# Altium schematic symbol library Xilinx.SchLib: 3 symbols
Pins are listed as number, name and electrical type; pins without a type are passive.

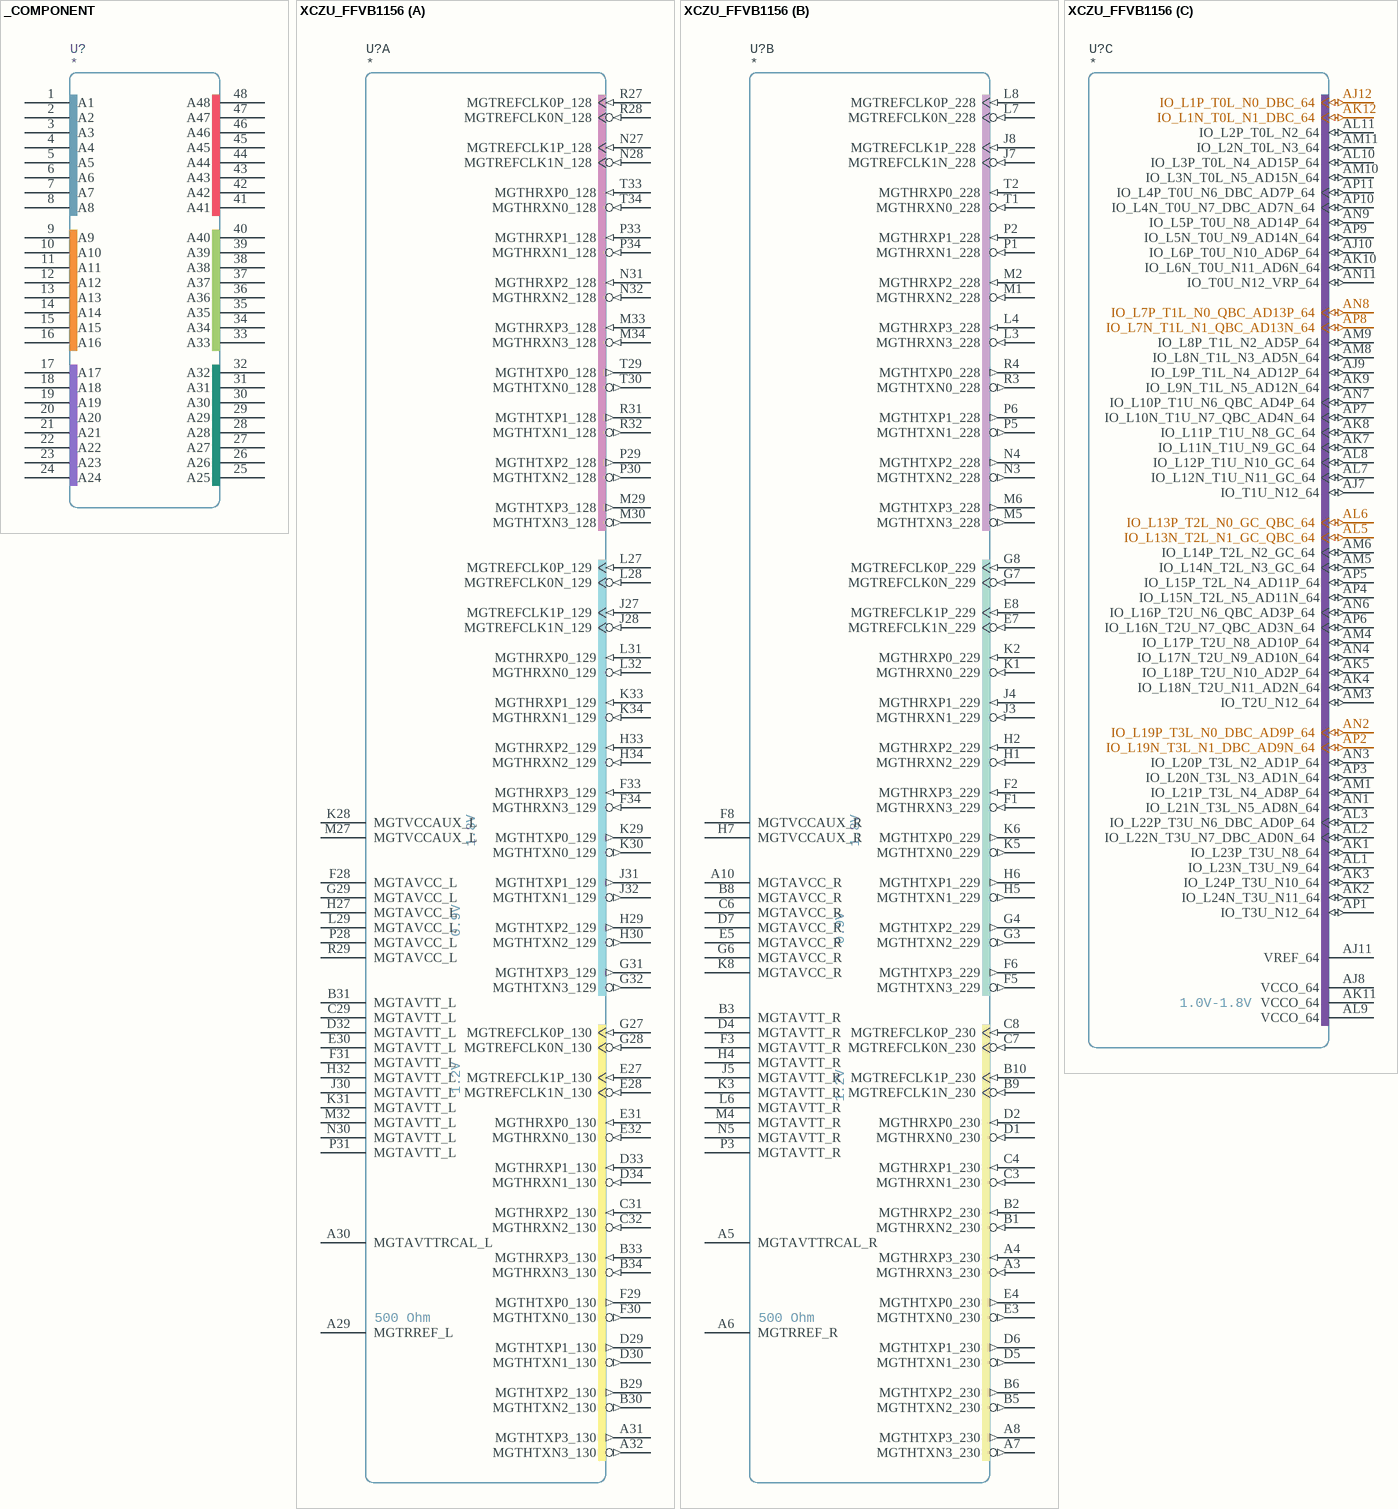
[diagram p0: symbols _COMPONENT to XCZU_FFVB1156]

## _COMPONENT
designator U?
pins: 1 A1, 2 A2, 3 A3, 4 A4, 5 A5, 6 A6, 7 A7, 8 A8, 9 A9, 10 A10, 11 A11, 12 A12, 13 A13, 14 A14, 15 A15, 16 A16, 17 A17, 18 A18, 19 A19, 20 A20, 21 A21, 22 A22, 23 A23, 24 A24, 25 A25, 26 A26, 27 A27, 28 A28, 29 A29, 30 A30, 31 A31, 32 A32, 33 A33, 34 A34, 35 A35, 36 A36, 37 A37, 38 A38, 39 A39, 40 A40, 41 A41, 42 A42, 43 A43, 44 A44, 45 A45, 46 A46, 47 A47, 48 A48

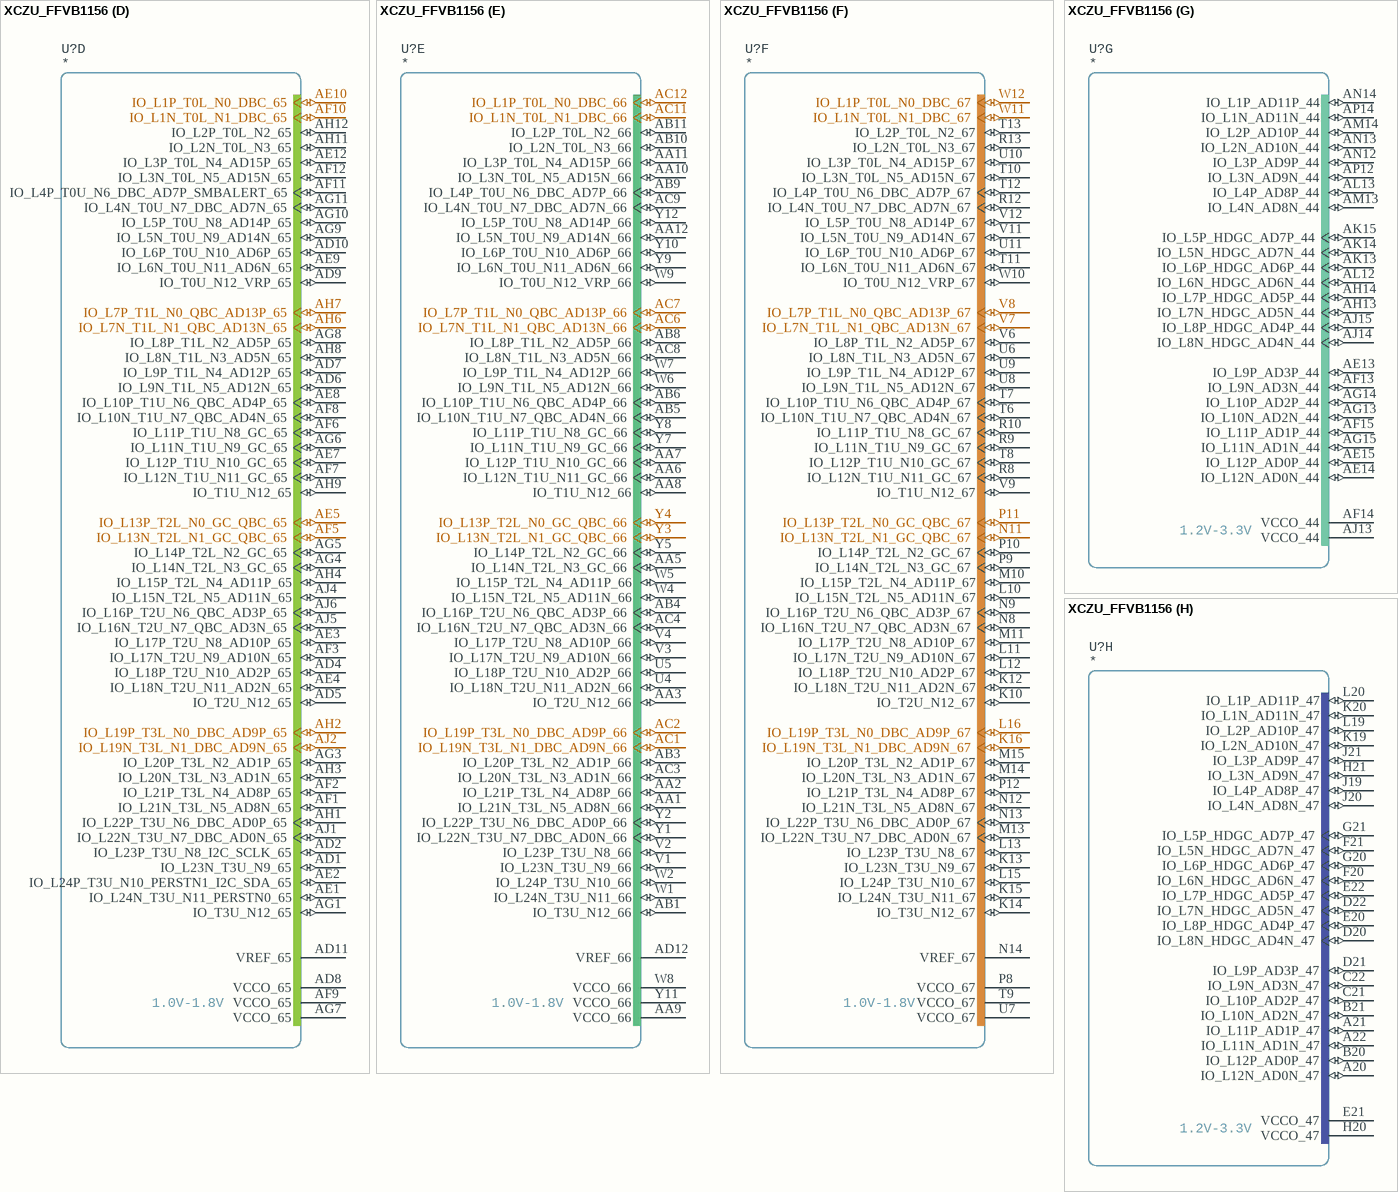
[diagram p1: symbol XCZU_FFVB1156]

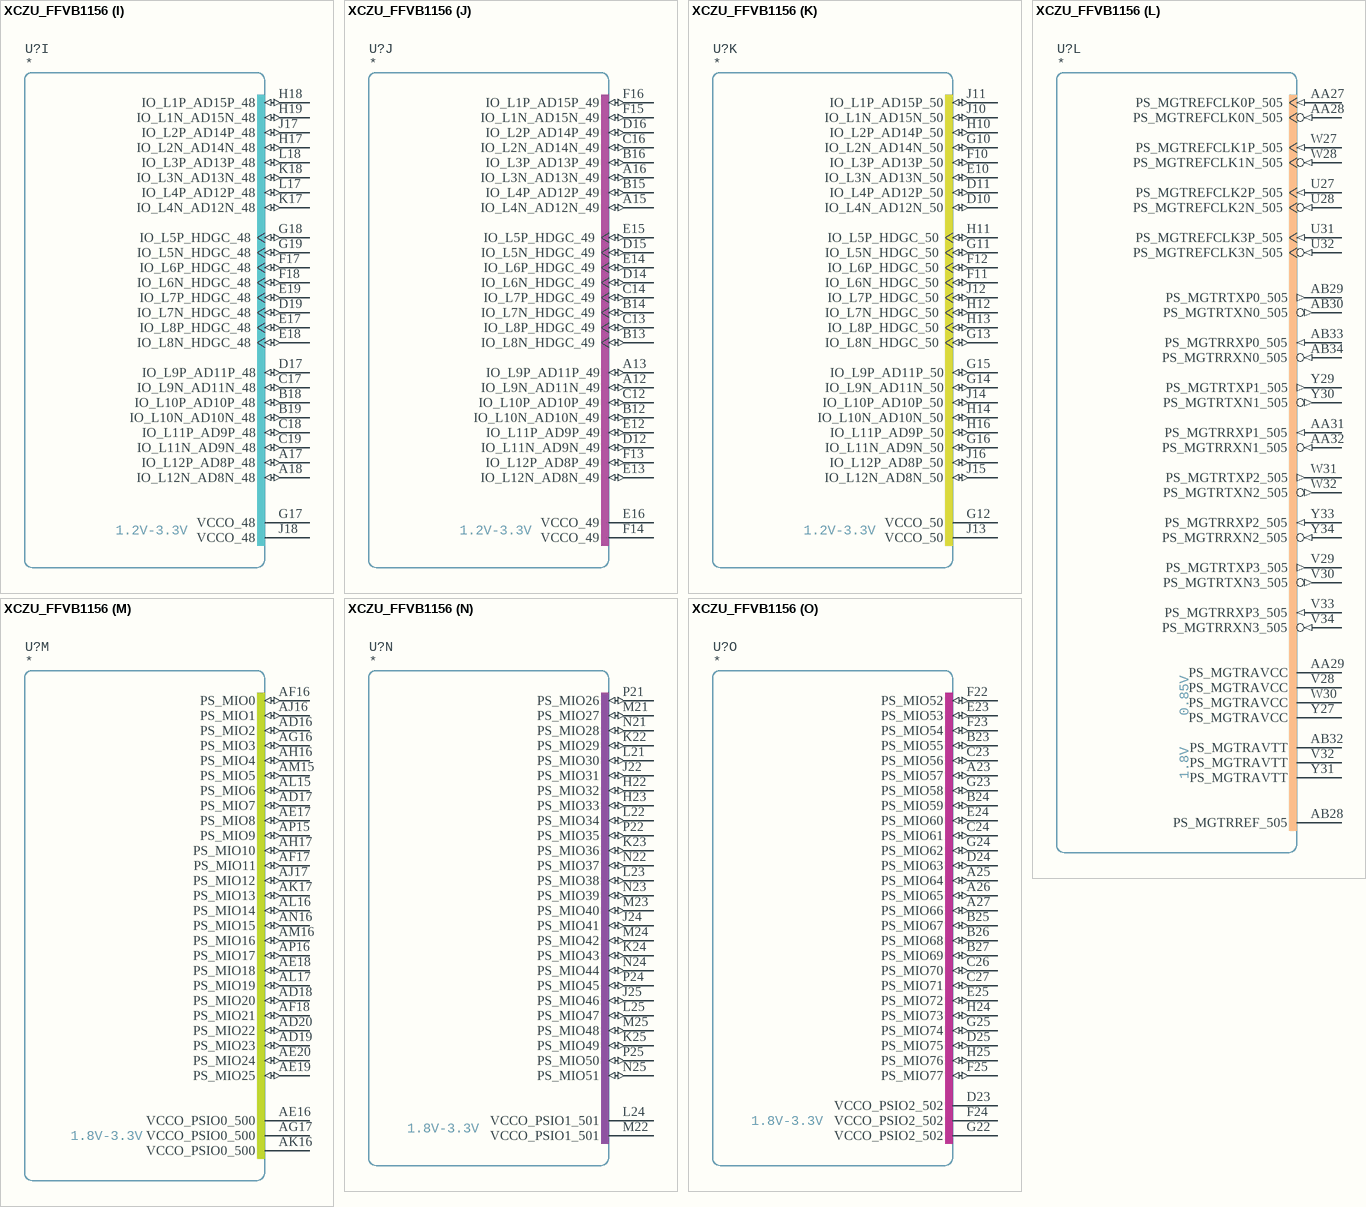
[diagram p2: symbol XCZU_FFVB1156]

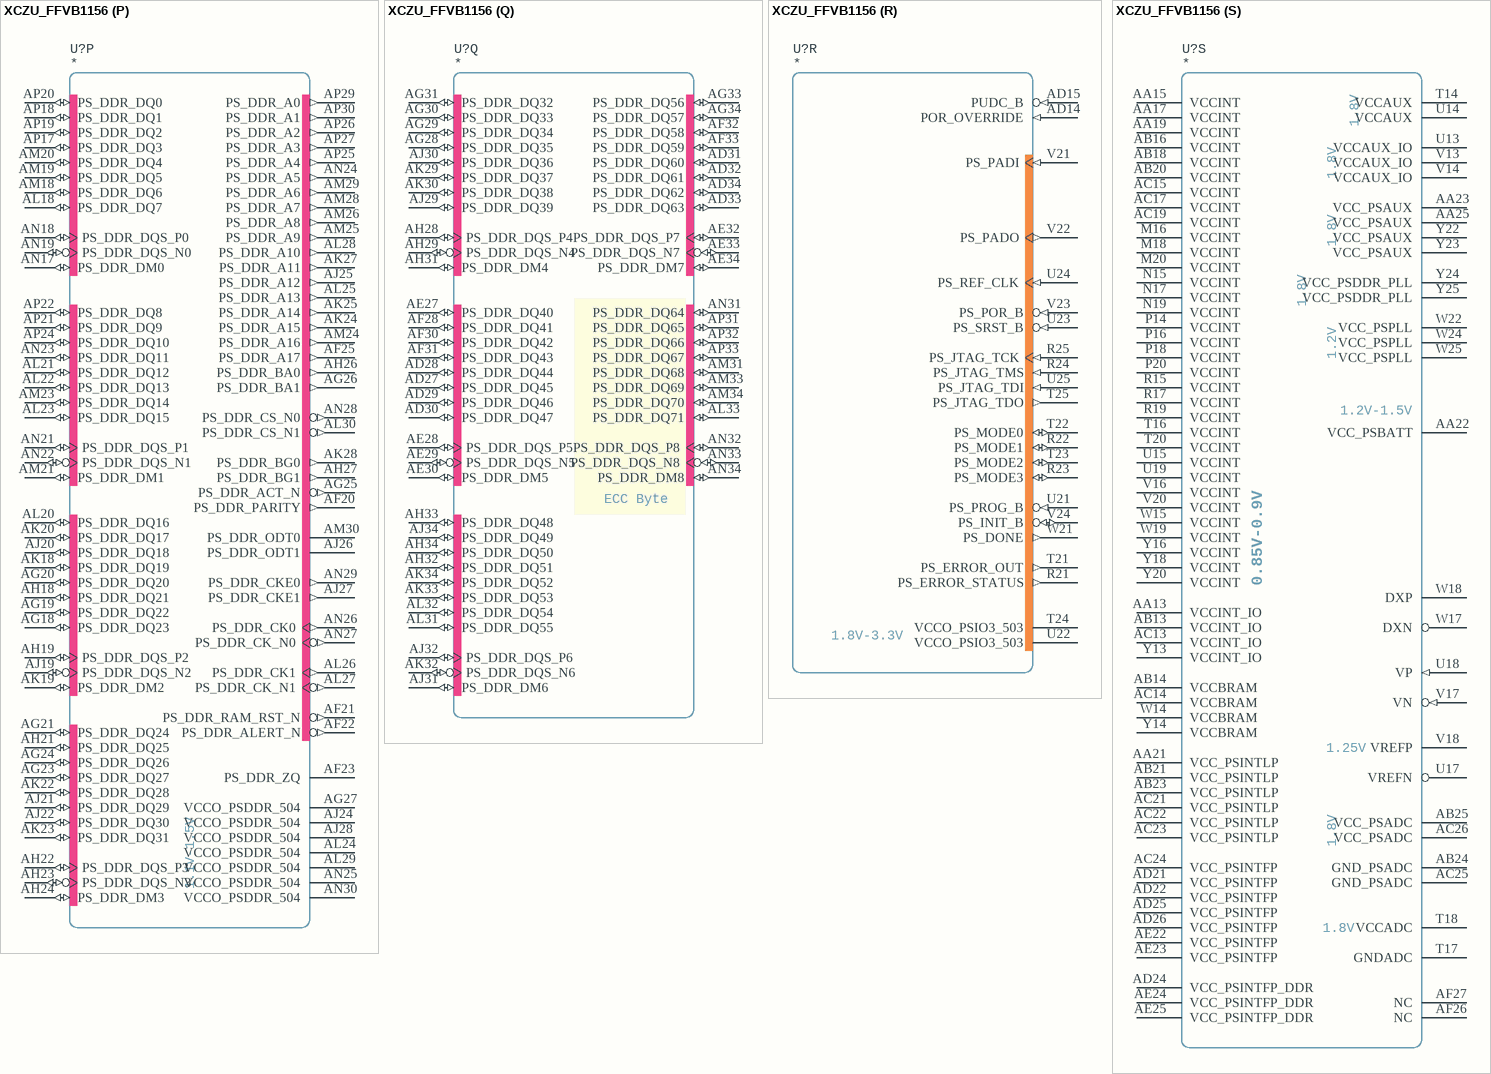
[diagram p3: symbol XCZU_FFVB1156]

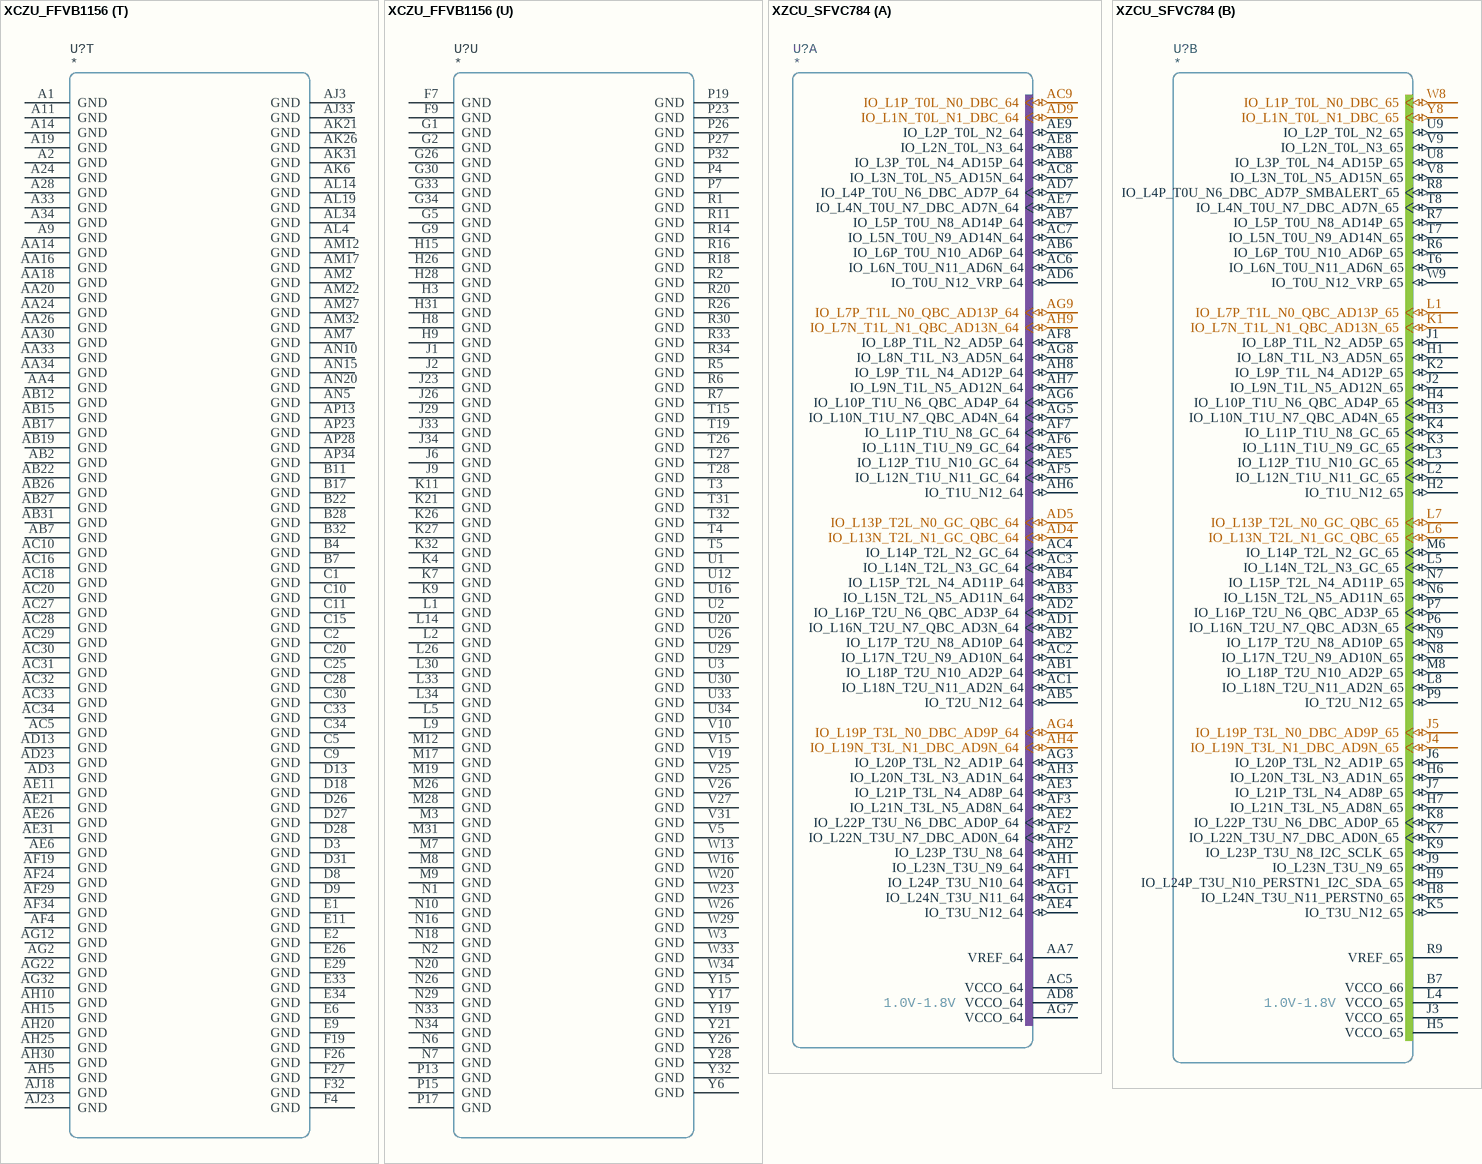
[diagram p4: symbols XCZU_FFVB1156 to XZCU_SFVC784]

## XCZU_FFVB1156
designator U?
part A pins: A29 MGTRREF_L, A30 MGTAVTTRCAL_L, A31 MGTHTXP3_130 (out), A32 MGTHTXN3_130 (out), B29 MGTHTXP2_130 (out), B30 MGTHTXN2_130 (out), B31 MGTAVTT_L, B33 MGTHRXP3_130 (in), B34 MGTHRXN3_130 (in), C29 MGTAVTT_L, C31 MGTHRXP2_130 (in), C32 MGTHRXN2_130 (in), D29 MGTHTXP1_130 (out), D30 MGTHTXN1_130 (out), D32 MGTAVTT_L, D33 MGTHRXP1_130 (in), D34 MGTHRXN1_130 (in), E27 MGTREFCLK1P_130 (in), E28 MGTREFCLK1N_130 (in), E30 MGTAVTT_L, E31 MGTHRXP0_130 (in), E32 MGTHRXN0_130 (in), F28 MGTAVCC_L, F29 MGTHTXP0_130 (out), F30 MGTHTXN0_130 (out), F31 MGTAVTT_L, F33 MGTHRXP3_129 (in), F34 MGTHRXN3_129 (in), G27 MGTREFCLK0P_130 (in), G28 MGTREFCLK0N_130 (in), G29 MGTAVCC_L, G31 MGTHTXP3_129 (out), G32 MGTHTXN3_129 (out), H27 MGTAVCC_L, H29 MGTHTXP2_129 (out), H30 MGTHTXN2_129 (out), H32 MGTAVTT_L, H33 MGTHRXP2_129 (in), H34 MGTHRXN2_129 (in), J27 MGTREFCLK1P_129 (in), J28 MGTREFCLK1N_129 (in), J30 MGTAVTT_L, J31 MGTHTXP1_129 (out), J32 MGTHTXN1_129 (out), K28 MGTVCCAUX_L, K29 MGTHTXP0_129 (out), K30 MGTHTXN0_129 (out), K31 MGTAVTT_L, K33 MGTHRXP1_129 (in), K34 MGTHRXN1_129 (in), L27 MGTREFCLK0P_129 (in), L28 MGTREFCLK0N_129 (in), L29 MGTAVCC_L, L31 MGTHRXP0_129 (in), L32 MGTHRXN0_129 (in), M27 MGTVCCAUX_L, M29 MGTHTXP3_128 (out), M30 MGTHTXN3_128 (out), M32 MGTAVTT_L, M33 MGTHRXP3_128 (in), M34 MGTHRXN3_128 (in), N27 MGTREFCLK1P_128 (in), N28 MGTREFCLK1N_128 (in), N30 MGTAVTT_L, N31 MGTHRXP2_128 (in), N32 MGTHRXN2_128 (in), P28 MGTAVCC_L, P29 MGTHTXP2_128 (out), P30 MGTHTXN2_128 (out), P31 MGTAVTT_L, P33 MGTHRXP1_128 (in), P34 MGTHRXN1_128 (in), R27 MGTREFCLK0P_128 (in), R28 MGTREFCLK0N_128 (in), R29 MGTAVCC_L, R31 MGTHTXP1_128 (out), R32 MGTHTXN1_128 (out), T29 MGTHTXP0_128 (out), T30 MGTHTXN0_128 (out), T33 MGTHRXP0_128 (in), T34 MGTHRXN0_128 (in)
part B pins: A3 MGTHRXN3_230 (in), A4 MGTHRXP3_230 (in), A5 MGTAVTTRCAL_R, A6 MGTRREF_R, A7 MGTHTXN3_230 (out), A8 MGTHTXP3_230 (out), A10 MGTAVCC_R, B1 MGTHRXN2_230 (in), B2 MGTHRXP2_230 (in), B3 MGTAVTT_R, B5 MGTHTXN2_230 (out), B6 MGTHTXP2_230 (out), B8 MGTAVCC_R, B9 MGTREFCLK1N_230 (in), B10 MGTREFCLK1P_230 (in), C3 MGTHRXN1_230 (in), C4 MGTHRXP1_230 (in), C6 MGTAVCC_R, C7 MGTREFCLK0N_230 (in), C8 MGTREFCLK0P_230 (in), D1 MGTHRXN0_230 (in), D2 MGTHRXP0_230 (in), D4 MGTAVTT_R, D5 MGTHTXN1_230 (out), D6 MGTHTXP1_230 (out), D7 MGTAVCC_R, E3 MGTHTXN0_230 (out), E4 MGTHTXP0_230 (out), E5 MGTAVCC_R, E7 MGTREFCLK1N_229 (in), E8 MGTREFCLK1P_229 (in), F1 MGTHRXN3_229 (in), F2 MGTHRXP3_229 (in), F3 MGTAVTT_R, F5 MGTHTXN3_229 (out), F6 MGTHTXP3_229 (out), F8 MGTVCCAUX_R, G3 MGTHTXN2_229 (out), G4 MGTHTXP2_229 (out), G6 MGTAVCC_R, G7 MGTREFCLK0N_229 (in), G8 MGTREFCLK0P_229 (in), H1 MGTHRXN2_229 (in), H2 MGTHRXP2_229 (in), H4 MGTAVTT_R, H5 MGTHTXN1_229 (out), H6 MGTHTXP1_229 (out), H7 MGTVCCAUX_R, J3 MGTHRXN1_229 (in), J4 MGTHRXP1_229 (in), J5 MGTAVTT_R, J7 MGTREFCLK1N_228 (in), J8 MGTREFCLK1P_228 (in), K1 MGTHRXN0_229 (in), K2 MGTHRXP0_229 (in), K3 MGTAVTT_R, K5 MGTHTXN0_229 (out), K6 MGTHTXP0_229 (out), K8 MGTAVCC_R, L3 MGTHRXN3_228 (in), L4 MGTHRXP3_228 (in), L6 MGTAVTT_R, L7 MGTREFCLK0N_228 (in), L8 MGTREFCLK0P_228 (in), M1 MGTHRXN2_228 (in), M2 MGTHRXP2_228 (in), M4 MGTAVTT_R, M5 MGTHTXN3_228 (out), M6 MGTHTXP3_228 (out), N3 MGTHTXN2_228 (out), N4 MGTHTXP2_228 (out), N5 MGTAVTT_R, P1 MGTHRXN1_228 (in), P2 MGTHRXP1_228 (in), P3 MGTAVTT_R, P5 MGTHTXN1_228 (out), P6 MGTHTXP1_228 (out), R3 MGTHTXN0_228 (out), R4 MGTHTXP0_228 (out), T1 MGTHRXN0_228 (in), T2 MGTHRXP0_228 (in)
part C pins: AJ7 IO_T1U_N12_64 (io), AJ8 VCCO_64, AJ9 IO_L9P_T1L_N4_AD12P_64 (io), AJ10 IO_L6P_T0U_N10_AD6P_64 (io), AJ11 VREF_64, AJ12 IO_L1P_T0L_N0_DBC_64 (io), AK1 IO_L23P_T3U_N8_64 (io), AK2 IO_L24N_T3U_N11_64 (io), AK3 IO_L24P_T3U_N10_64 (io), AK4 IO_L18N_T2U_N11_AD2N_64 (io), AK5 IO_L18P_T2U_N10_AD2P_64 (io), AK7 IO_L11N_T1U_N9_GC_64 (io), AK8 IO_L11P_T1U_N8_GC_64 (io), AK9 IO_L9N_T1L_N5_AD12N_64 (io), AK10 IO_L6N_T0U_N11_AD6N_64 (io), AK11 VCCO_64, AK12 IO_L1N_T0L_N1_DBC_64 (io), AL1 IO_L23N_T3U_N9_64 (io), AL2 IO_L22N_T3U_N7_DBC_AD0N_64 (io), AL3 IO_L22P_T3U_N6_DBC_AD0P_64 (io), AL5 IO_L13N_T2L_N1_GC_QBC_64 (io), AL6 IO_L13P_T2L_N0_GC_QBC_64 (io), AL7 IO_L12N_T1U_N11_GC_64 (io), AL8 IO_L12P_T1U_N10_GC_64 (io), AL9 VCCO_64, AL10 IO_L3P_T0L_N4_AD15P_64 (io), AL11 IO_L2P_T0L_N2_64 (io), AM1 IO_L21P_T3L_N4_AD8P_64 (io), AM3 IO_T2U_N12_64 (io), AM4 IO_L17P_T2U_N8_AD10P_64 (io), AM5 IO_L14N_T2L_N3_GC_64 (io), AM6 IO_L14P_T2L_N2_GC_64 (io), AM8 IO_L8N_T1L_N3_AD5N_64 (io), AM9 IO_L8P_T1L_N2_AD5P_64 (io), AM10 IO_L3N_T0L_N5_AD15N_64 (io), AM11 IO_L2N_T0L_N3_64 (io), AN1 IO_L21N_T3L_N5_AD8N_64 (io), AN2 IO_L19P_T3L_N0_DBC_AD9P_64 (io), AN3 IO_L20P_T3L_N2_AD1P_64 (io), AN4 IO_L17N_T2U_N9_AD10N_64 (io), AN6 IO_L16P_T2U_N6_QBC_AD3P_64 (io), AN7 IO_L10P_T1U_N6_QBC_AD4P_64 (io), AN8 IO_L7P_T1L_N0_QBC_AD13P_64 (io), AN9 IO_L5P_T0U_N8_AD14P_64 (io), AN11 IO_T0U_N12_VRP_64 (io), AP1 IO_T3U_N12_64 (io), AP2 IO_L19N_T3L_N1_DBC_AD9N_64 (io), AP3 IO_L20N_T3L_N3_AD1N_64 (io), AP4 IO_L15N_T2L_N5_AD11N_64 (io), AP5 IO_L15P_T2L_N4_AD11P_64 (io), AP6 IO_L16N_T2U_N7_QBC_AD3N_64 (io), AP7 IO_L10N_T1U_N7_QBC_AD4N_64 (io), AP8 IO_L7N_T1L_N1_QBC_AD13N_64 (io), AP9 IO_L5N_T0U_N9_AD14N_64 (io), AP10 IO_L4N_T0U_N7_DBC_AD7N_64 (io), AP11 IO_L4P_T0U_N6_DBC_AD7P_64 (io)
part D pins: AD1 IO_L23N_T3U_N9_65 (io), AD2 IO_L23P_T3U_N8_I2C_SCLK_65 (io), AD4 IO_L18P_T2U_N10_AD2P_65 (io), AD5 IO_T2U_N12_65 (io), AD6 IO_L9N_T1L_N5_AD12N_65 (io), AD7 IO_L9P_T1L_N4_AD12P_65 (io), AD8 VCCO_65, AD9 IO_T0U_N12_VRP_65 (io), AD10 IO_L6P_T0U_N10_AD6P_65 (io), AD11 VREF_65, AE1 IO_L24N_T3U_N11_PERSTN0_65 (io), AE2 IO_L24P_T3U_N10_PERSTN1_I2C_SDA_65 (io), AE3 IO_L17P_T2U_N8_AD10P_65 (io), AE4 IO_L18N_T2U_N11_AD2N_65 (io), AE5 IO_L13P_T2L_N0_GC_QBC_65 (io), AE7 IO_L12P_T1U_N10_GC_65 (io), AE8 IO_L10P_T1U_N6_QBC_AD4P_65 (io), AE9 IO_L6N_T0U_N11_AD6N_65 (io), AE10 IO_L1P_T0L_N0_DBC_65 (io), AE12 IO_L3P_T0L_N4_AD15P_65 (io), AF1 IO_L21N_T3L_N5_AD8N_65 (io), AF2 IO_L21P_T3L_N4_AD8P_65 (io), AF3 IO_L17N_T2U_N9_AD10N_65 (io), AF5 IO_L13N_T2L_N1_GC_QBC_65 (io), AF6 IO_L11P_T1U_N8_GC_65 (io), AF7 IO_L12N_T1U_N11_GC_65 (io), AF8 IO_L10N_T1U_N7_QBC_AD4N_65 (io), AF9 VCCO_65, AF10 IO_L1N_T0L_N1_DBC_65 (io), AF11 IO_L4P_T0U_N6_DBC_AD7P_SMBALERT_65 (io), AF12 IO_L3N_T0L_N5_AD15N_65 (io), AG1 IO_T3U_N12_65 (io), AG3 IO_L20P_T3L_N2_AD1P_65 (io), AG4 IO_L14N_T2L_N3_GC_65 (io), AG5 IO_L14P_T2L_N2_GC_65 (io), AG6 IO_L11N_T1U_N9_GC_65 (io), AG7 VCCO_65, AG8 IO_L8P_T1L_N2_AD5P_65 (io), AG9 IO_L5N_T0U_N9_AD14N_65 (io), AG10 IO_L5P_T0U_N8_AD14P_65 (io), AG11 IO_L4N_T0U_N7_DBC_AD7N_65 (io), AH1 IO_L22P_T3U_N6_DBC_AD0P_65 (io), AH2 IO_L19P_T3L_N0_DBC_AD9P_65 (io), AH3 IO_L20N_T3L_N3_AD1N_65 (io), AH4 IO_L15P_T2L_N4_AD11P_65 (io), AH6 IO_L7N_T1L_N1_QBC_AD13N_65 (io), AH7 IO_L7P_T1L_N0_QBC_AD13P_65 (io), AH8 IO_L8N_T1L_N3_AD5N_65 (io), AH9 IO_T1U_N12_65 (io), AH11 IO_L2N_T0L_N3_65 (io), AH12 IO_L2P_T0L_N2_65 (io), AJ1 IO_L22N_T3U_N7_DBC_AD0N_65 (io), AJ2 IO_L19N_T3L_N1_DBC_AD9N_65 (io), AJ4 IO_L15N_T2L_N5_AD11N_65 (io), AJ5 IO_L16N_T2U_N7_QBC_AD3N_65 (io), AJ6 IO_L16P_T2U_N6_QBC_AD3P_65 (io)
part E pins: AA1 IO_L21N_T3L_N5_AD8N_66 (io), AA2 IO_L21P_T3L_N4_AD8P_66 (io), AA3 IO_T2U_N12_66 (io), AA5 IO_L14N_T2L_N3_GC_66 (io), AA6 IO_L12N_T1U_N11_GC_66 (io), AA7 IO_L12P_T1U_N10_GC_66 (io), AA8 IO_T1U_N12_66 (io), AA9 VCCO_66, AA10 IO_L3N_T0L_N5_AD15N_66 (io), AA11 IO_L3P_T0L_N4_AD15P_66 (io), AA12 IO_L5N_T0U_N9_AD14N_66 (io), AB1 IO_T3U_N12_66 (io), AB3 IO_L20P_T3L_N2_AD1P_66 (io), AB4 IO_L16P_T2U_N6_QBC_AD3P_66 (io), AB5 IO_L10N_T1U_N7_QBC_AD4N_66 (io), AB6 IO_L10P_T1U_N6_QBC_AD4P_66 (io), AB8 IO_L8P_T1L_N2_AD5P_66 (io), AB9 IO_L4P_T0U_N6_DBC_AD7P_66 (io), AB10 IO_L2N_T0L_N3_66 (io), AB11 IO_L2P_T0L_N2_66 (io), AC1 IO_L19N_T3L_N1_DBC_AD9N_66 (io), AC2 IO_L19P_T3L_N0_DBC_AD9P_66 (io), AC3 IO_L20N_T3L_N3_AD1N_66 (io), AC4 IO_L16N_T2U_N7_QBC_AD3N_66 (io), AC6 IO_L7N_T1L_N1_QBC_AD13N_66 (io), AC7 IO_L7P_T1L_N0_QBC_AD13P_66 (io), AC8 IO_L8N_T1L_N3_AD5N_66 (io), AC9 IO_L4N_T0U_N7_DBC_AD7N_66 (io), AC11 IO_L1N_T0L_N1_DBC_66 (io), AC12 IO_L1P_T0L_N0_DBC_66 (io), AD12 VREF_66, U4 IO_L18N_T2U_N11_AD2N_66 (io), U5 IO_L18P_T2U_N10_AD2P_66 (io), V1 IO_L23N_T3U_N9_66 (io), V2 IO_L23P_T3U_N8_66 (io), V3 IO_L17N_T2U_N9_AD10N_66 (io), V4 IO_L17P_T2U_N8_AD10P_66 (io), W1 IO_L24N_T3U_N11_66 (io), W2 IO_L24P_T3U_N10_66 (io), W4 IO_L15N_T2L_N5_AD11N_66 (io), W5 IO_L15P_T2L_N4_AD11P_66 (io), W6 IO_L9N_T1L_N5_AD12N_66 (io), W7 IO_L9P_T1L_N4_AD12P_66 (io), W8 VCCO_66, W9 IO_T0U_N12_VRP_66 (io), Y1 IO_L22N_T3U_N7_DBC_AD0N_66 (io), Y2 IO_L22P_T3U_N6_DBC_AD0P_66 (io), Y3 IO_L13N_T2L_N1_GC_QBC_66 (io), Y4 IO_L13P_T2L_N0_GC_QBC_66 (io), Y5 IO_L14P_T2L_N2_GC_66 (io), Y7 IO_L11N_T1U_N9_GC_66 (io), Y8 IO_L11P_T1U_N8_GC_66 (io), Y9 IO_L6N_T0U_N11_AD6N_66 (io), Y10 IO_L6P_T0U_N10_AD6P_66 (io), Y11 VCCO_66, Y12 IO_L5P_T0U_N8_AD14P_66 (io)
part F pins: K10 IO_T2U_N12_67 (io), K12 IO_L18N_T2U_N11_AD2N_67 (io), K13 IO_L23N_T3U_N9_67 (io), K14 IO_T3U_N12_67 (io), K15 IO_L24N_T3U_N11_67 (io), K16 IO_L19N_T3L_N1_DBC_AD9N_67 (io), L10 IO_L15N_T2L_N5_AD11N_67 (io), L11 IO_L17N_T2U_N9_AD10N_67 (io), L12 IO_L18P_T2U_N10_AD2P_67 (io), L13 IO_L23P_T3U_N8_67 (io), L15 IO_L24P_T3U_N10_67 (io), L16 IO_L19P_T3L_N0_DBC_AD9P_67 (io), M10 IO_L15P_T2L_N4_AD11P_67 (io), M11 IO_L17P_T2U_N8_AD10P_67 (io), M13 IO_L22N_T3U_N7_DBC_AD0N_67 (io), M14 IO_L20N_T3L_N3_AD1N_67 (io), M15 IO_L20P_T3L_N2_AD1P_67 (io), N8 IO_L16N_T2U_N7_QBC_AD3N_67 (io), N9 IO_L16P_T2U_N6_QBC_AD3P_67 (io), N11 IO_L13N_T2L_N1_GC_QBC_67 (io), N12 IO_L21N_T3L_N5_AD8N_67 (io), N13 IO_L22P_T3U_N6_DBC_AD0P_67 (io), N14 VREF_67, P8 VCCO_67, P9 IO_L14N_T2L_N3_GC_67 (io), P10 IO_L14P_T2L_N2_GC_67 (io), P11 IO_L13P_T2L_N0_GC_QBC_67 (io), P12 IO_L21P_T3L_N4_AD8P_67 (io), R8 IO_L12N_T1U_N11_GC_67 (io), R9 IO_L11N_T1U_N9_GC_67 (io), R10 IO_L11P_T1U_N8_GC_67 (io), R12 IO_L4N_T0U_N7_DBC_AD7N_67 (io), R13 IO_L2N_T0L_N3_67 (io), T6 IO_L10N_T1U_N7_QBC_AD4N_67 (io), T7 IO_L10P_T1U_N6_QBC_AD4P_67 (io), T8 IO_L12P_T1U_N10_GC_67 (io), T9 VCCO_67, T10 IO_L3N_T0L_N5_AD15N_67 (io), T11 IO_L6N_T0U_N11_AD6N_67 (io), T12 IO_L4P_T0U_N6_DBC_AD7P_67 (io), T13 IO_L2P_T0L_N2_67 (io), U6 IO_L8N_T1L_N3_AD5N_67 (io), U7 VCCO_67, U8 IO_L9N_T1L_N5_AD12N_67 (io), U9 IO_L9P_T1L_N4_AD12P_67 (io), U10 IO_L3P_T0L_N4_AD15P_67 (io), U11 IO_L6P_T0U_N10_AD6P_67 (io), V6 IO_L8P_T1L_N2_AD5P_67 (io), V7 IO_L7N_T1L_N1_QBC_AD13N_67 (io), V8 IO_L7P_T1L_N0_QBC_AD13P_67 (io), V9 IO_T1U_N12_67 (io), V11 IO_L5N_T0U_N9_AD14N_67 (io), V12 IO_L5P_T0U_N8_AD14P_67 (io), W10 IO_T0U_N12_VRP_67 (io), W11 IO_L1N_T0L_N1_DBC_67 (io), W12 IO_L1P_T0L_N0_DBC_67 (io)
part G pins: AE13 IO_L9P_AD3P_44 (io), AE14 IO_L12N_AD0N_44 (io), AE15 IO_L12P_AD0P_44 (io), AF13 IO_L9N_AD3N_44 (io), AF14 VCCO_44, AF15 IO_L11P_AD1P_44 (io), AG13 IO_L10N_AD2N_44 (io), AG14 IO_L10P_AD2P_44 (io), AG15 IO_L11N_AD1N_44 (io), AH13 IO_L7N_HDGC_AD5N_44 (io), AH14 IO_L7P_HDGC_AD5P_44 (io), AJ13 VCCO_44, AJ14 IO_L8N_HDGC_AD4N_44 (io), AJ15 IO_L8P_HDGC_AD4P_44 (io), AK13 IO_L6P_HDGC_AD6P_44 (io), AK14 IO_L5N_HDGC_AD7N_44 (io), AK15 IO_L5P_HDGC_AD7P_44 (io), AL12 IO_L6N_HDGC_AD6N_44 (io), AL13 IO_L4P_AD8P_44 (io), AM13 IO_L4N_AD8N_44 (io), AM14 IO_L2P_AD10P_44 (io), AN12 IO_L3P_AD9P_44 (io), AN13 IO_L2N_AD10N_44 (io), AN14 IO_L1P_AD11P_44 (io), AP12 IO_L3N_AD9N_44 (io), AP14 IO_L1N_AD11N_44 (io)
part H pins: A20 IO_L12N_AD0N_47 (io), A21 IO_L11P_AD1P_47 (io), A22 IO_L11N_AD1N_47 (io), B20 IO_L12P_AD0P_47 (io), B21 IO_L10N_AD2N_47 (io), C21 IO_L10P_AD2P_47 (io), C22 IO_L9N_AD3N_47 (io), D20 IO_L8N_HDGC_AD4N_47 (io), D21 IO_L9P_AD3P_47 (io), D22 IO_L7N_HDGC_AD5N_47 (io), E20 IO_L8P_HDGC_AD4P_47 (io), E21 VCCO_47, E22 IO_L7P_HDGC_AD5P_47 (io), F20 IO_L6N_HDGC_AD6N_47 (io), F21 IO_L5N_HDGC_AD7N_47 (io), G20 IO_L6P_HDGC_AD6P_47 (io), G21 IO_L5P_HDGC_AD7P_47 (io), H20 VCCO_47, H21 IO_L3N_AD9N_47 (io), J19 IO_L4P_AD8P_47 (io), J20 IO_L4N_AD8N_47 (io), J21 IO_L3P_AD9P_47 (io), K19 IO_L2N_AD10N_47 (io), K20 IO_L1N_AD11N_47 (io), L19 IO_L2P_AD10P_47 (io), L20 IO_L1P_AD11P_47 (io)
part I pins: A17 IO_L12P_AD8P_48 (io), A18 IO_L12N_AD8N_48 (io), B18 IO_L10P_AD10P_48 (io), B19 IO_L10N_AD10N_48 (io), C17 IO_L9N_AD11N_48 (io), C18 IO_L11P_AD9P_48 (io), C19 IO_L11N_AD9N_48 (io), D17 IO_L9P_AD11P_48 (io), D19 IO_L7N_HDGC_48 (io), E17 IO_L8P_HDGC_48 (io), E18 IO_L8N_HDGC_48 (io), E19 IO_L7P_HDGC_48 (io), F17 IO_L6P_HDGC_48 (io), F18 IO_L6N_HDGC_48 (io), G17 VCCO_48, G18 IO_L5P_HDGC_48 (io), G19 IO_L5N_HDGC_48 (io), H17 IO_L2N_AD14N_48 (io), H18 IO_L1P_AD15P_48 (io), H19 IO_L1N_AD15N_48 (io), J17 IO_L2P_AD14P_48 (io), J18 VCCO_48, K17 IO_L4N_AD12N_48 (io), K18 IO_L3N_AD13N_48 (io), L17 IO_L4P_AD12P_48 (io), L18 IO_L3P_AD13P_48 (io)
part J pins: A12 IO_L9N_AD11N_49 (io), A13 IO_L9P_AD11P_49 (io), A15 IO_L4N_AD12N_49 (io), A16 IO_L3N_AD13N_49 (io), B12 IO_L10N_AD10N_49 (io), B13 IO_L8N_HDGC_49 (io), B14 IO_L7N_HDGC_49 (io), B15 IO_L4P_AD12P_49 (io), B16 IO_L3P_AD13P_49 (io), C12 IO_L10P_AD10P_49 (io), C13 IO_L8P_HDGC_49 (io), C14 IO_L7P_HDGC_49 (io), C16 IO_L2N_AD14N_49 (io), D12 IO_L11N_AD9N_49 (io), D14 IO_L6N_HDGC_49 (io), D15 IO_L5N_HDGC_49 (io), D16 IO_L2P_AD14P_49 (io), E12 IO_L11P_AD9P_49 (io), E13 IO_L12N_AD8N_49 (io), E14 IO_L6P_HDGC_49 (io), E15 IO_L5P_HDGC_49 (io), E16 VCCO_49, F13 IO_L12P_AD8P_49 (io), F14 VCCO_49, F15 IO_L1N_AD15N_49 (io), F16 IO_L1P_AD15P_49 (io)
part K pins: D10 IO_L4N_AD12N_50 (io), D11 IO_L4P_AD12P_50 (io), E10 IO_L3N_AD13N_50 (io), F10 IO_L3P_AD13P_50 (io), F11 IO_L6N_HDGC_50 (io), F12 IO_L6P_HDGC_50 (io), G10 IO_L2N_AD14N_50 (io), G11 IO_L5N_HDGC_50 (io), G12 VCCO_50, G13 IO_L8N_HDGC_50 (io), G14 IO_L9N_AD11N_50 (io), G15 IO_L9P_AD11P_50 (io), G16 IO_L11N_AD9N_50 (io), H10 IO_L2P_AD14P_50 (io), H11 IO_L5P_HDGC_50 (io), H12 IO_L7N_HDGC_50 (io), H13 IO_L8P_HDGC_50 (io), H14 IO_L10N_AD10N_50 (io), H16 IO_L11P_AD9P_50 (io), J10 IO_L1N_AD15N_50 (io), J11 IO_L1P_AD15P_50 (io), J12 IO_L7P_HDGC_50 (io), J13 VCCO_50, J14 IO_L10P_AD10P_50 (io), J15 IO_L12N_AD8N_50 (io), J16 IO_L12P_AD8P_50 (io)
part L pins: AA27 PS_MGTREFCLK0P_505 (in), AA28 PS_MGTREFCLK0N_505 (in), AA29 PS_MGTRAVCC, AA31 PS_MGTRRXP1_505 (in), AA32 PS_MGTRRXN1_505 (in), AB28 PS_MGTRREF_505, AB29 PS_MGTRTXP0_505 (out), AB30 PS_MGTRTXN0_505 (out), AB32 PS_MGTRAVTT, AB33 PS_MGTRRXP0_505 (in), AB34 PS_MGTRRXN0_505 (in), U27 PS_MGTREFCLK2P_505 (in), U28 PS_MGTREFCLK2N_505 (in), U31 PS_MGTREFCLK3P_505 (in), U32 PS_MGTREFCLK3N_505 (in), V28 PS_MGTRAVCC, V29 PS_MGTRTXP3_505 (out), V30 PS_MGTRTXN3_505 (out), V32 PS_MGTRAVTT, V33 PS_MGTRRXP3_505 (in), V34 PS_MGTRRXN3_505 (in), W27 PS_MGTREFCLK1P_505 (in), W28 PS_MGTREFCLK1N_505 (in), W30 PS_MGTRAVCC, W31 PS_MGTRTXP2_505 (out), W32 PS_MGTRTXN2_505 (out), Y27 PS_MGTRAVCC, Y29 PS_MGTRTXP1_505 (out), Y30 PS_MGTRTXN1_505 (out), Y31 PS_MGTRAVTT, Y33 PS_MGTRRXP2_505 (in), Y34 PS_MGTRRXN2_505 (in)
part M pins: AD16 PS_MIO2 (io), AD17 PS_MIO7 (io), AD18 PS_MIO20 (io), AD19 PS_MIO23 (io), AD20 PS_MIO22 (io), AE16 VCCO_PSIO0_500, AE17 PS_MIO8 (io), AE18 PS_MIO18 (io), AE19 PS_MIO25 (io), AE20 PS_MIO24 (io), AF16 PS_MIO0 (io), AF17 PS_MIO11 (io), AF18 PS_MIO21 (io), AG16 PS_MIO3 (io), AG17 VCCO_PSIO0_500, AH16 PS_MIO4 (io), AH17 PS_MIO10 (io), AJ16 PS_MIO1 (io), AJ17 PS_MIO12 (io), AK16 VCCO_PSIO0_500, AK17 PS_MIO13 (io), AL15 PS_MIO6 (io), AL16 PS_MIO14 (io), AL17 PS_MIO19 (io), AM15 PS_MIO5 (io), AM16 PS_MIO16 (io), AN16 PS_MIO15 (io), AP15 PS_MIO9 (io), AP16 PS_MIO17 (io)
part N pins: H22 PS_MIO32 (io), H23 PS_MIO33 (io), J22 PS_MIO31 (io), J24 PS_MIO41 (io), J25 PS_MIO46 (io), K22 PS_MIO29 (io), K23 PS_MIO36 (io), K24 PS_MIO43 (io), K25 PS_MIO49 (io), L21 PS_MIO30 (io), L22 PS_MIO34 (io), L23 PS_MIO38 (io), L24 VCCO_PSIO1_501, L25 PS_MIO47 (io), M21 PS_MIO27 (io), M22 VCCO_PSIO1_501, M23 PS_MIO40 (io), M24 PS_MIO42 (io), M25 PS_MIO48 (io), N21 PS_MIO28 (io), N22 PS_MIO37 (io), N23 PS_MIO39 (io), N24 PS_MIO44 (io), N25 PS_MIO51 (io), P21 PS_MIO26 (io), P22 PS_MIO35 (io), P24 PS_MIO45 (io), P25 PS_MIO50 (io)
part O pins: A23 PS_MIO57 (io), A25 PS_MIO64 (io), A26 PS_MIO65 (io), A27 PS_MIO66 (io), B23 PS_MIO55 (io), B24 PS_MIO59 (io), B25 PS_MIO67 (io), B26 PS_MIO68 (io), B27 PS_MIO69 (io), C23 PS_MIO56 (io), C24 PS_MIO61 (io), C26 PS_MIO70 (io), C27 PS_MIO71 (io), D23 VCCO_PSIO2_502, D24 PS_MIO63 (io), D25 PS_MIO75 (io), E23 PS_MIO53 (io), E24 PS_MIO60 (io), E25 PS_MIO72 (io), F22 PS_MIO52 (io), F23 PS_MIO54 (io), F24 VCCO_PSIO2_502, F25 PS_MIO77 (io), G22 VCCO_PSIO2_502, G23 PS_MIO58 (io), G24 PS_MIO62 (io), G25 PS_MIO74 (io), H24 PS_MIO73 (io), H25 PS_MIO76 (io)
part P pins: AF20 PS_DDR_PARITY (out), AF21 PS_DDR_RAM_RST_N (out), AF22 PS_DDR_ALERT_N (out), AF23 PS_DDR_ZQ, AF25 PS_DDR_A17 (out), AG18 PS_DDR_DQ23 (io), AG19 PS_DDR_DQ22 (io), AG20 PS_DDR_DQ20 (io), AG21 PS_DDR_DQ24 (io), AG23 PS_DDR_DQ27 (io), AG24 PS_DDR_DQ26 (io), AG25 PS_DDR_ACT_N (out), AG26 PS_DDR_BA1 (out), AG27 VCCO_PSDDR_504, AH18 PS_DDR_DQ21 (io), AH19 PS_DDR_DQS_P2 (io), AH21 PS_DDR_DQ25 (io), AH22 PS_DDR_DQS_P3 (io), AH23 PS_DDR_DQS_N3 (io), AH24 PS_DDR_DM3 (io), AH26 PS_DDR_BA0 (out), AH27 PS_DDR_BG1 (out), AJ19 PS_DDR_DQS_N2 (io), AJ20 PS_DDR_DQ18 (io), AJ21 PS_DDR_DQ29 (io), AJ22 PS_DDR_DQ30 (io), AJ24 VCCO_PSDDR_504, AJ25 PS_DDR_A12 (out), AJ26 PS_DDR_ODT1, AJ27 PS_DDR_CKE1 (out), AJ28 VCCO_PSDDR_504, AK18 PS_DDR_DQ19 (io), AK19 PS_DDR_DM2 (io), AK20 PS_DDR_DQ17 (io), AK22 PS_DDR_DQ28 (io), AK23 PS_DDR_DQ31 (io), AK24 PS_DDR_A15 (out), AK25 PS_DDR_A14 (out), AK27 PS_DDR_A11 (out), AK28 PS_DDR_BG0 (out), AL18 PS_DDR_DQ7 (io), AL20 PS_DDR_DQ16 (io), AL21 PS_DDR_DQ12 (io), AL22 PS_DDR_DQ13 (io), AL23 PS_DDR_DQ15 (io), AL24 VCCO_PSDDR_504, AL25 PS_DDR_A13 (out), AL26 PS_DDR_CK1 (out), AL27 PS_DDR_CK_N1 (out), AL28 PS_DDR_A10 (out), AL29 VCCO_PSDDR_504, AL30 PS_DDR_CS_N1 (out), AM18 PS_DDR_DQ6 (io), AM19 PS_DDR_DQ5 (io), AM20 PS_DDR_DQ4 (io), AM21 PS_DDR_DM1 (io), AM23 PS_DDR_DQ14 (io), AM24 PS_DDR_A16 (out), AM25 PS_DDR_A9 (out), AM26 PS_DDR_A8 (out), AM28 PS_DDR_A7 (out), AM29 PS_DDR_A6 (out), AM30 PS_DDR_ODT0, AN17 PS_DDR_DM0 (io), AN18 PS_DDR_DQS_P0 (io), AN19 PS_DDR_DQS_N0 (io), AN21 PS_DDR_DQS_P1 (io), AN22 PS_DDR_DQS_N1 (io), AN23 PS_DDR_DQ11 (io), AN24 PS_DDR_A5 (out), AN25 VCCO_PSDDR_504, AN26 PS_DDR_CK0 (out), AN27 PS_DDR_CK_N0 (out), AN28 PS_DDR_CS_N0 (out), AN29 PS_DDR_CKE0 (out), AN30 VCCO_PSDDR_504, AP17 PS_DDR_DQ3 (io), AP18 PS_DDR_DQ1 (io), AP19 PS_DDR_DQ2 (io), AP20 PS_DDR_DQ0 (io), AP21 PS_DDR_DQ9 (io), AP22 PS_DDR_DQ8 (io), AP24 PS_DDR_DQ10 (io), AP25 PS_DDR_A4 (out), AP26 PS_DDR_A2 (out), AP27 PS_DDR_A3 (out), AP29 PS_DDR_A0 (out), AP30 PS_DDR_A1 (out)
part Q pins: AD27 PS_DDR_DQ45 (io), AD28 PS_DDR_DQ44 (io), AD29 PS_DDR_DQ46 (io), AD30 PS_DDR_DQ47 (io), AD31 PS_DDR_DQ60 (io), AD32 PS_DDR_DQ61 (io), AD33 PS_DDR_DQ63 (io), AD34 PS_DDR_DQ62 (io), AE27 PS_DDR_DQ40 (io), AE28 PS_DDR_DQS_P5 (io), AE29 PS_DDR_DQS_N5 (io), AE30 PS_DDR_DM5 (io), AE32 PS_DDR_DQS_P7 (io), AE33 PS_DDR_DQS_N7 (io), AE34 PS_DDR_DM7 (io), AF28 PS_DDR_DQ41 (io), AF30 PS_DDR_DQ42 (io), AF31 PS_DDR_DQ43 (io), AF32 PS_DDR_DQ58 (io), AF33 PS_DDR_DQ59 (io), AG28 PS_DDR_DQ35 (io), AG29 PS_DDR_DQ34 (io), AG30 PS_DDR_DQ33 (io), AG31 PS_DDR_DQ32 (io), AG33 PS_DDR_DQ56 (io), AG34 PS_DDR_DQ57 (io), AH28 PS_DDR_DQS_P4 (io), AH29 PS_DDR_DQS_N4 (io), AH31 PS_DDR_DM4 (io), AH32 PS_DDR_DQ51 (io), AH33 PS_DDR_DQ48 (io), AH34 PS_DDR_DQ50 (io), AJ29 PS_DDR_DQ39 (io), AJ30 PS_DDR_DQ36 (io), AJ31 PS_DDR_DM6 (io), AJ32 PS_DDR_DQS_P6 (io), AJ34 PS_DDR_DQ49 (io), AK29 PS_DDR_DQ37 (io), AK30 PS_DDR_DQ38 (io), AK32 PS_DDR_DQS_N6 (io), AK33 PS_DDR_DQ53 (io), AK34 PS_DDR_DQ52 (io), AL31 PS_DDR_DQ55 (io), AL32 PS_DDR_DQ54 (io), AL33 PS_DDR_DQ71 (io), AM31 PS_DDR_DQ68 (io), AM33 PS_DDR_DQ69 (io), AM34 PS_DDR_DQ70 (io), AN31 PS_DDR_DQ64 (io), AN32 PS_DDR_DQS_P8 (io), AN33 PS_DDR_DQS_N8 (io), AN34 PS_DDR_DM8 (io), AP31 PS_DDR_DQ65 (io), AP32 PS_DDR_DQ66 (io), AP33 PS_DDR_DQ67 (io)
part R pins: AD14 POR_OVERRIDE (in), AD15 PUDC_B (in), R21 PS_ERROR_STATUS (out), R22 PS_MODE1 (io), R23 PS_MODE3 (io), R24 PS_JTAG_TMS (in), R25 PS_JTAG_TCK (in), T21 PS_ERROR_OUT (out), T22 PS_MODE0 (io), T23 PS_MODE2 (io), T24 VCCO_PSIO3_503, T25 PS_JTAG_TDO (out), U21 PS_PROG_B (in), U22 VCCO_PSIO3_503, U23 PS_SRST_B (in), U24 PS_REF_CLK (in), U25 PS_JTAG_TDI (in), V21 PS_PADI (in), V22 PS_PADO (out), V23 PS_POR_B (in), V24 PS_INIT_B (io), W21 PS_DONE (out)
part S pins: AA13 VCCINT_IO, AA15 VCCINT, AA17 VCCINT, AA19 VCCINT, AA21 VCC_PSINTLP, AA22 VCC_PSBATT, AA23 VCC_PSAUX, AA25 VCC_PSAUX, AB13 VCCINT_IO, AB14 VCCBRAM, AB16 VCCINT, AB18 VCCINT, AB20 VCCINT, AB21 VCC_PSINTLP, AB23 VCC_PSINTLP, AB24 GND_PSADC, AB25 VCC_PSADC, AC13 VCCINT_IO, AC14 VCCBRAM, AC15 VCCINT, AC17 VCCINT, AC19 VCCINT, AC21 VCC_PSINTLP, AC22 VCC_PSINTLP, AC23 VCC_PSINTLP, AC24 VCC_PSINTFP, AC25 GND_PSADC, AC26 VCC_PSADC, AD21 VCC_PSINTFP, AD22 VCC_PSINTFP, AD24 VCC_PSINTFP_DDR, AD25 VCC_PSINTFP, AD26 VCC_PSINTFP, AE22 VCC_PSINTFP, AE23 VCC_PSINTFP, AE24 VCC_PSINTFP_DDR, AE25 VCC_PSINTFP_DDR, AF26 NC, AF27 NC, M16 VCCINT, M18 VCCINT, M20 VCCINT, N15 VCCINT, N17 VCCINT, N19 VCCINT, P14 VCCINT, P16 VCCINT, P18 VCCINT, P20 VCCINT, R15 VCCINT, R17 VCCINT, R19 VCCINT, T14 VCCAUX, T16 VCCINT, T17 GNDADC, T18 VCCADC, T20 VCCINT, U13 VCCAUX_IO, U14 VCCAUX, U15 VCCINT, U17 VREFN, U18 VP (in), U19 VCCINT, V13 VCCAUX_IO, V14 VCCAUX_IO, V16 VCCINT, V17 VN (in), V18 VREFP, V20 VCCINT, W14 VCCBRAM, W15 VCCINT, W17 DXN, W18 DXP, W19 VCCINT, W22 VCC_PSPLL, W24 VCC_PSPLL, W25 VCC_PSPLL, Y13 VCCINT_IO, Y14 VCCBRAM, Y16 VCCINT, Y18 VCCINT, Y20 VCCINT, Y22 VCC_PSAUX, Y23 VCC_PSAUX, Y24 VCC_PSDDR_PLL, Y25 VCC_PSDDR_PLL
part T pins: A1 GND, A2 GND, A9 GND, A11 GND, A14 GND, A19 GND, A24 GND, A28 GND, A33 GND, A34 GND, AA4 GND, AA14 GND, AA16 GND, AA18 GND, AA20 GND, AA24 GND, AA26 GND, AA30 GND, AA33 GND, AA34 GND, AB2 GND, AB7 GND, AB12 GND, AB15 GND, AB17 GND, AB19 GND, AB22 GND, AB26 GND, AB27 GND, AB31 GND, AC5 GND, AC10 GND, AC16 GND, AC18 GND, AC20 GND, AC27 GND, AC28 GND, AC29 GND, AC30 GND, AC31 GND, AC32 GND, AC33 GND, AC34 GND, AD3 GND, AD13 GND, AD23 GND, AE6 GND, AE11 GND, AE21 GND, AE26 GND, AE31 GND, AF4 GND, AF19 GND, AF24 GND, AF29 GND, AF34 GND, AG2 GND, AG12 GND, AG22 GND, AG32 GND, AH5 GND, AH10 GND, AH15 GND, AH20 GND, AH25 GND, AH30 GND, AJ3 GND, AJ18 GND, AJ23 GND, AJ33 GND, AK6 GND, AK21 GND, AK26 GND, AK31 GND, AL4 GND, AL14 GND, AL19 GND, AL34 GND, AM2 GND, AM7 GND, AM12 GND, AM17 GND, AM22 GND, AM27 GND, AM32 GND, AN5 GND, AN10 GND, AN15 GND, AN20 GND, AP13 GND, AP23 GND, AP28 GND, AP34 GND, B4 GND, B7 GND, B11 GND, B17 GND, B22 GND, B28 GND, B32 GND, C1 GND, C2 GND, C5 GND, C9 GND, C10 GND, C11 GND, C15 GND, C20 GND, C25 GND, C28 GND, C30 GND, C33 GND, C34 GND, D3 GND, D8 GND, D9 GND, D13 GND, D18 GND, D26 GND, D27 GND, D28 GND, D31 GND, E1 GND, E2 GND, E6 GND, E9 GND, E11 GND, E26 GND, E29 GND, E33 GND, E34 GND, F4 GND, F19 GND, F26 GND, F27 GND, F32 GND
part U pins: F7 GND, F9 GND, G1 GND, G2 GND, G5 GND, G9 GND, G26 GND, G30 GND, G33 GND, G34 GND, H3 GND, H8 GND, H9 GND, H15 GND, H26 GND, H28 GND, H31 GND, J1 GND, J2 GND, J6 GND, J9 GND, J23 GND, J26 GND, J29 GND, J33 GND, J34 GND, K4 GND, K7 GND, K9 GND, K11 GND, K21 GND, K26 GND, K27 GND, K32 GND, L1 GND, L2 GND, L5 GND, L9 GND, L14 GND, L26 GND, L30 GND, L33 GND, L34 GND, M3 GND, M7 GND, M8 GND, M9 GND, M12 GND, M17 GND, M19 GND, M26 GND, M28 GND, M31 GND, N1 GND, N2 GND, N6 GND, N7 GND, N10 GND, N16 GND, N18 GND, N20 GND, N26 GND, N29 GND, N33 GND, N34 GND, P4 GND, P7 GND, P13 GND, P15 GND, P17 GND, P19 GND, P23 GND, P26 GND, P27 GND, P32 GND, R1 GND, R2 GND, R5 GND, R6 GND, R7 GND, R11 GND, R14 GND, R16 GND, R18 GND, R20 GND, R26 GND, R30 GND, R33 GND, R34 GND, T3 GND, T4 GND, T5 GND, T15 GND, T19 GND, T26 GND, T27 GND, T28 GND, T31 GND, T32 GND, U1 GND, U2 GND, U3 GND, U12 GND, U16 GND, U20 GND, U26 GND, U29 GND, U30 GND, U33 GND, U34 GND, V5 GND, V10 GND, V15 GND, V19 GND, V25 GND, V26 GND, V27 GND, V31 GND, W3 GND, W13 GND, W16 GND, W20 GND, W23 GND, W26 GND, W29 GND, W33 GND, W34 GND, Y6 GND, Y15 GND, Y17 GND, Y19 GND, Y21 GND, Y26 GND, Y28 GND, Y32 GND
part A text: 1.8V; 0.9V; 1.2V; 500 Ohm
part B text: 1.8V; 0.9V; 1.2V; 500 Ohm
part C text: 1.0V-1.8V
part D text: 1.0V-1.8V
part E text: 1.0V-1.8V
part F text: 1.0V-1.8V
part G text: 1.2V-3.3V
part H text: 1.2V-3.3V
part I text: 1.2V-3.3V
part J text: 1.2V-3.3V
part K text: 1.2V-3.3V
part L text: 0.85V; 1.8V
part M text: 1.8V-3.3V
part N text: 1.8V-3.3V
part O text: 1.8V-3.3V
part P text: 1.1V-1.5V
part Q text: ECC Byte
part R text: 1.8V-3.3V
part S text: 1.8V; 1.2V; 1.2V-1.5V; 0.85V-0.9V; 1.25V

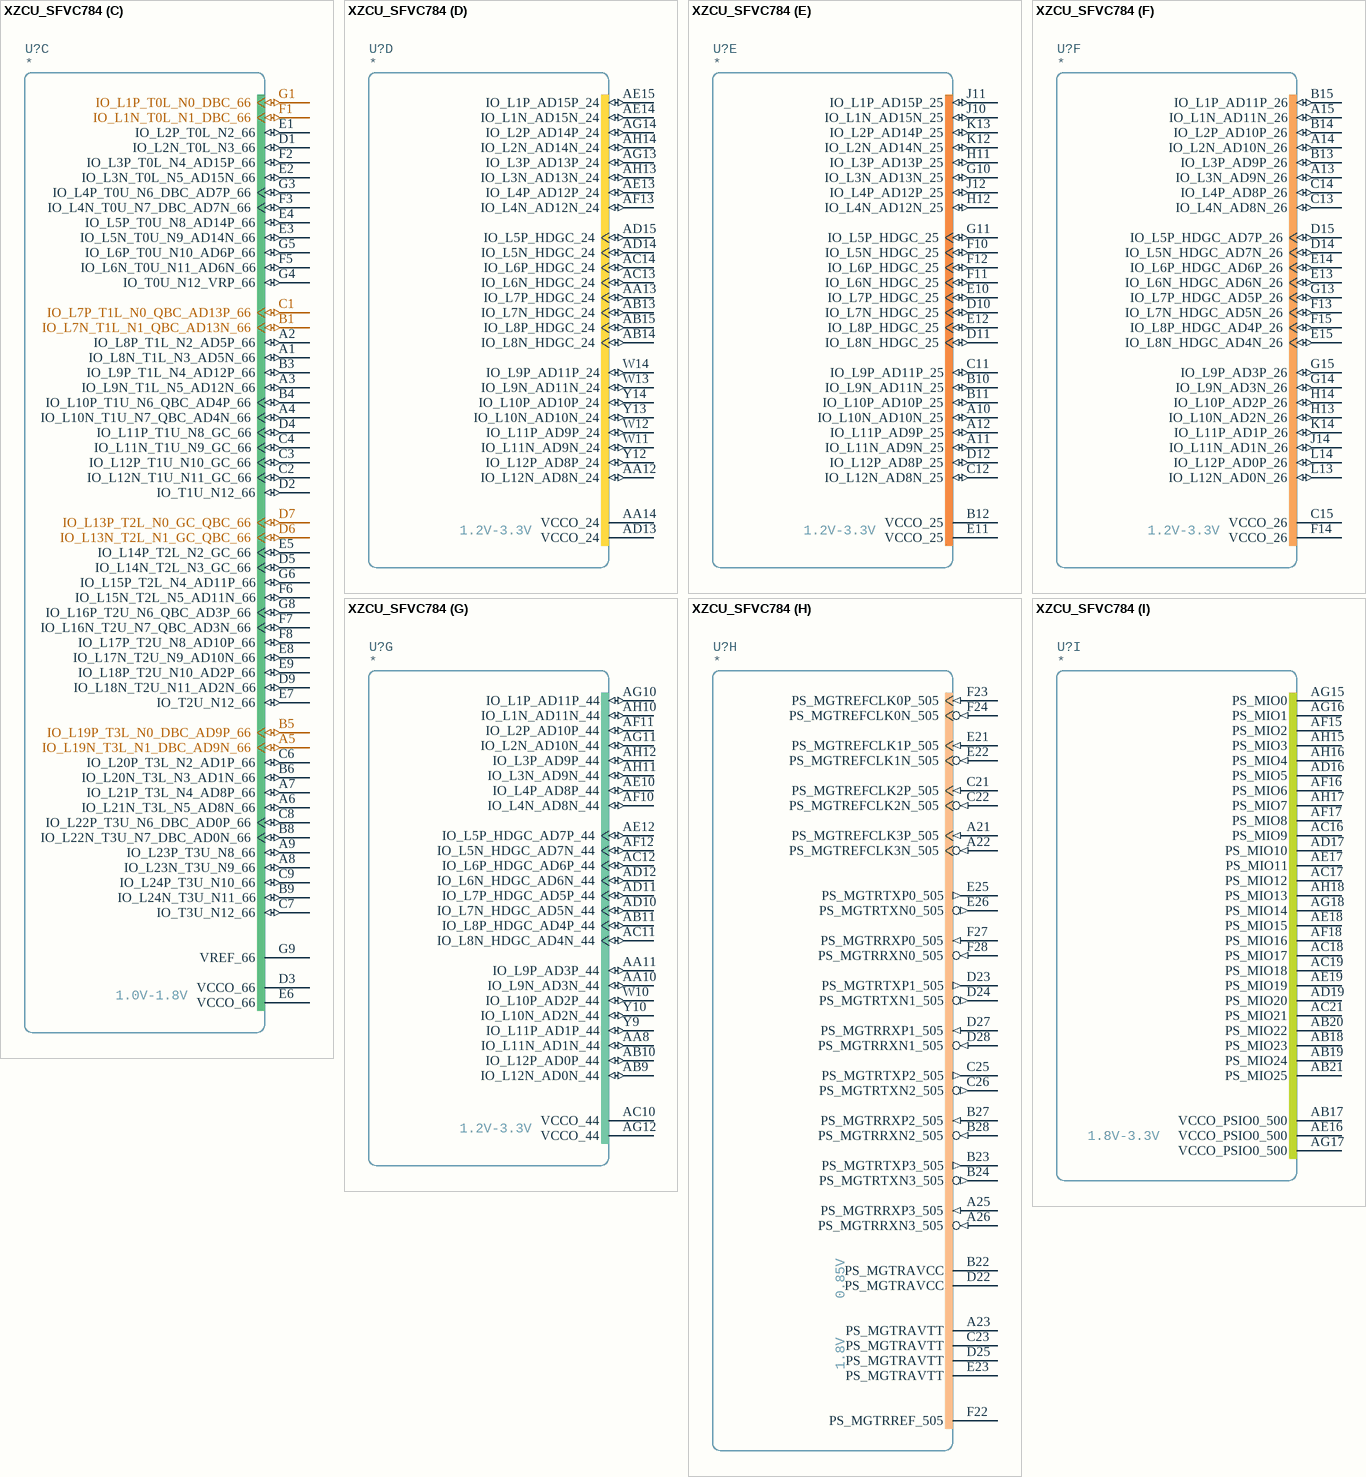
[diagram p5: symbol XZCU_SFVC784]

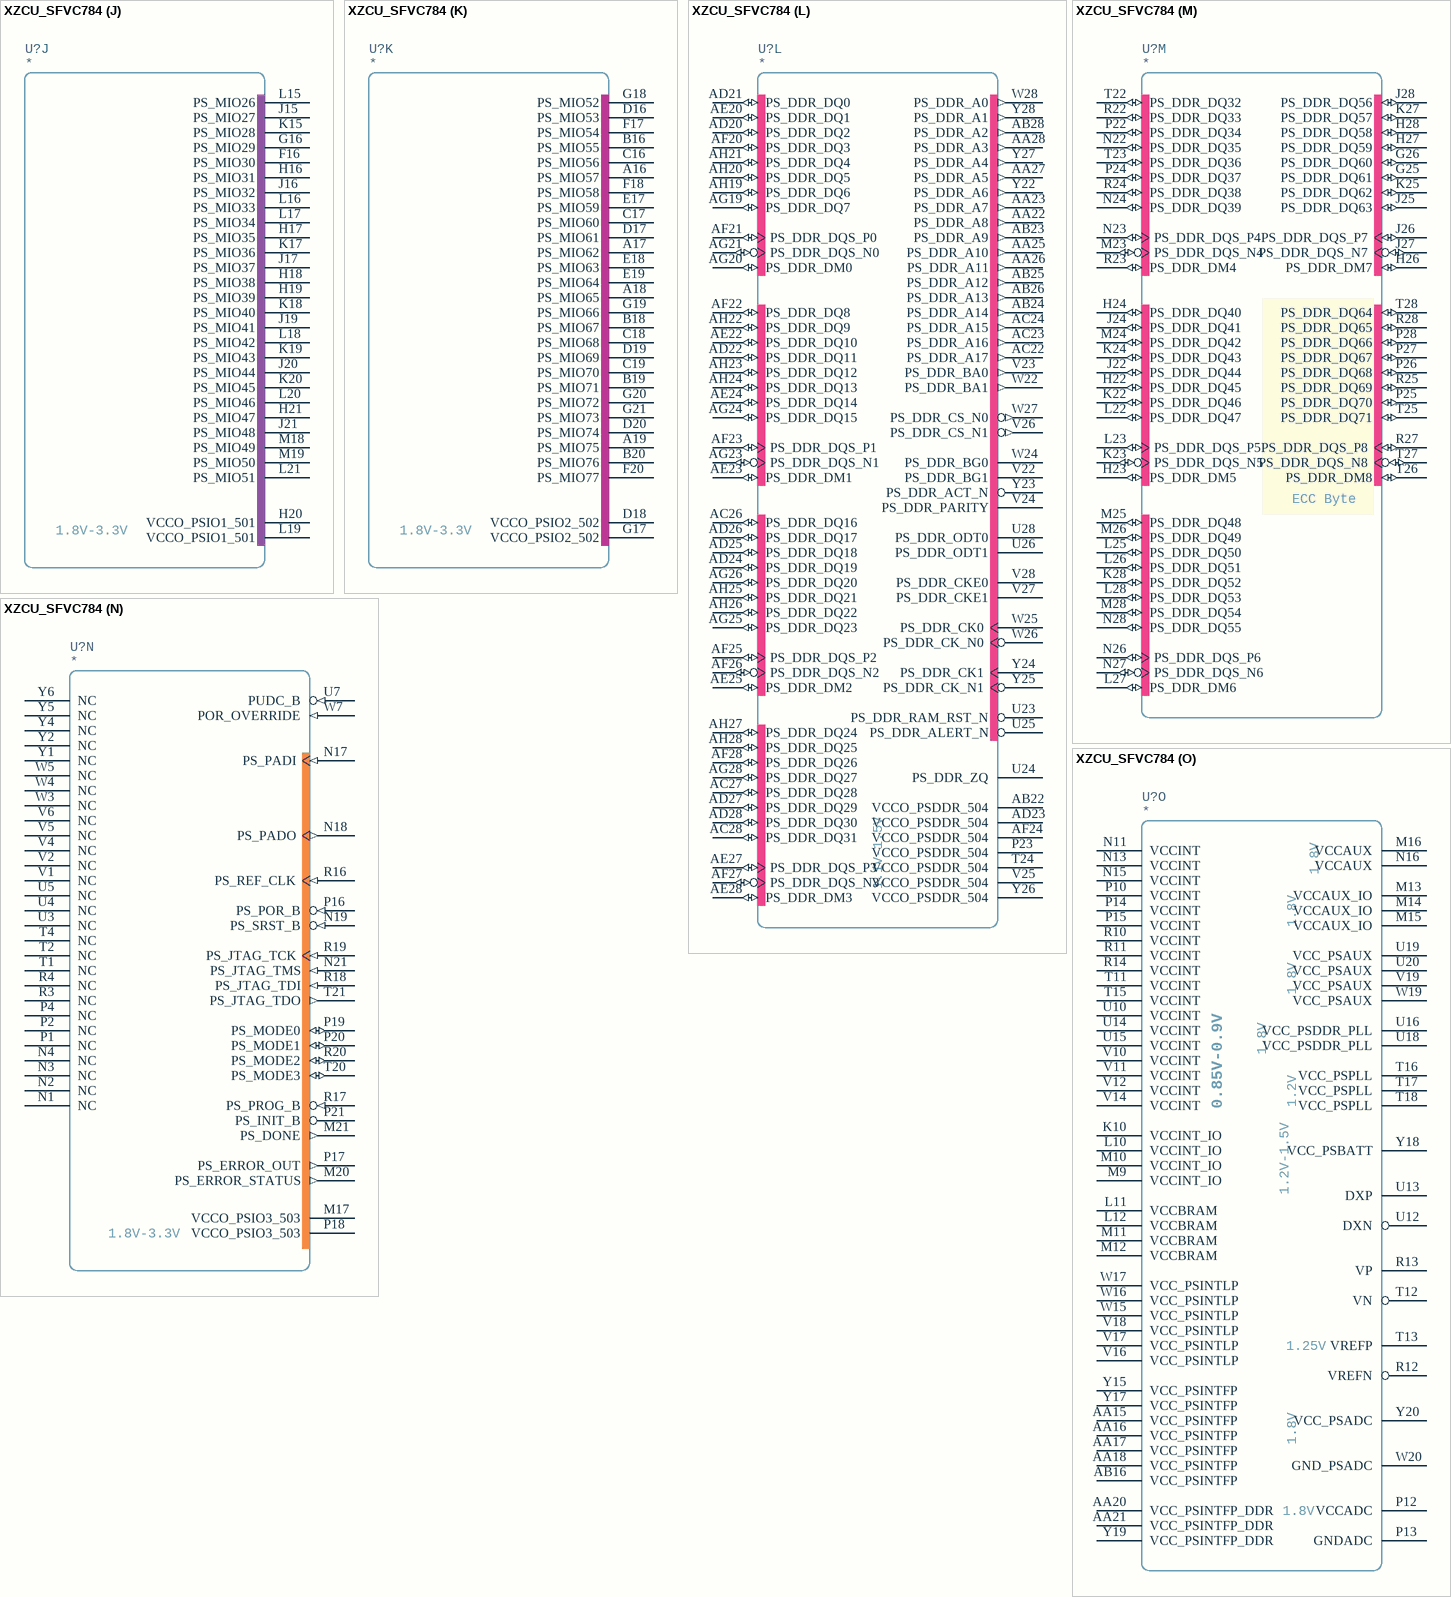
[diagram p6: symbol XZCU_SFVC784]

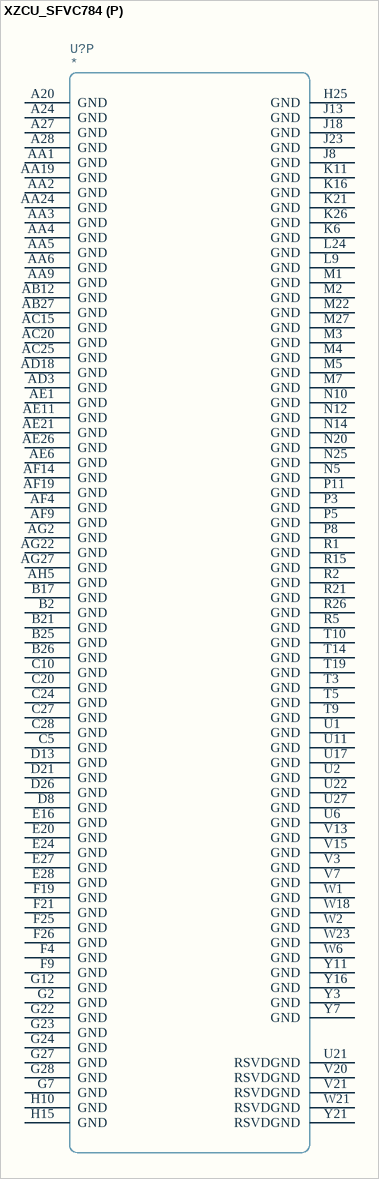
[diagram p7: symbol XZCU_SFVC784]

## XZCU_SFVC784
designator U?
part A pins: AA7 VREF_64, AB1 IO_L18P_T2U_N10_AD2P_64 (io), AB2 IO_L17P_T2U_N8_AD10P_64 (io), AB3 IO_L15N_T2L_N5_AD11N_64 (io), AB4 IO_L15P_T2L_N4_AD11P_64 (io), AB5 IO_T2U_N12_64 (io), AB6 IO_L6P_T0U_N10_AD6P_64 (io), AB7 IO_L5P_T0U_N8_AD14P_64 (io), AB8 IO_L3P_T0L_N4_AD15P_64 (io), AC1 IO_L18N_T2U_N11_AD2N_64 (io), AC2 IO_L17N_T2U_N9_AD10N_64 (io), AC3 IO_L14N_T2L_N3_GC_64 (io), AC4 IO_L14P_T2L_N2_GC_64 (io), AC5 VCCO_64, AC6 IO_L6N_T0U_N11_AD6N_64 (io), AC7 IO_L5N_T0U_N9_AD14N_64 (io), AC8 IO_L3N_T0L_N5_AD15N_64 (io), AC9 IO_L1P_T0L_N0_DBC_64 (io), AD1 IO_L16N_T2U_N7_QBC_AD3N_64 (io), AD2 IO_L16P_T2U_N6_QBC_AD3P_64 (io), AD4 IO_L13N_T2L_N1_GC_QBC_64 (io), AD5 IO_L13P_T2L_N0_GC_QBC_64 (io), AD6 IO_T0U_N12_VRP_64 (io), AD7 IO_L4P_T0U_N6_DBC_AD7P_64 (io), AD8 VCCO_64, AD9 IO_L1N_T0L_N1_DBC_64 (io), AE2 IO_L22P_T3U_N6_DBC_AD0P_64 (io), AE3 IO_L21P_T3L_N4_AD8P_64 (io), AE4 IO_T3U_N12_64 (io), AE5 IO_L12P_T1U_N10_GC_64 (io), AE7 IO_L4N_T0U_N7_DBC_AD7N_64 (io), AE8 IO_L2N_T0L_N3_64 (io), AE9 IO_L2P_T0L_N2_64 (io), AF1 IO_L24P_T3U_N10_64 (io), AF2 IO_L22N_T3U_N7_DBC_AD0N_64 (io), AF3 IO_L21N_T3L_N5_AD8N_64 (io), AF5 IO_L12N_T1U_N11_GC_64 (io), AF6 IO_L11N_T1U_N9_GC_64 (io), AF7 IO_L11P_T1U_N8_GC_64 (io), AF8 IO_L8P_T1L_N2_AD5P_64 (io), AG1 IO_L24N_T3U_N11_64 (io), AG3 IO_L20P_T3L_N2_AD1P_64 (io), AG4 IO_L19P_T3L_N0_DBC_AD9P_64 (io), AG5 IO_L10N_T1U_N7_QBC_AD4N_64 (io), AG6 IO_L10P_T1U_N6_QBC_AD4P_64 (io), AG7 VCCO_64, AG8 IO_L8N_T1L_N3_AD5N_64 (io), AG9 IO_L7P_T1L_N0_QBC_AD13P_64 (io), AH1 IO_L23N_T3U_N9_64 (io), AH2 IO_L23P_T3U_N8_64 (io), AH3 IO_L20N_T3L_N3_AD1N_64 (io), AH4 IO_L19N_T3L_N1_DBC_AD9N_64 (io), AH6 IO_T1U_N12_64 (io), AH7 IO_L9N_T1L_N5_AD12N_64 (io), AH8 IO_L9P_T1L_N4_AD12P_64 (io), AH9 IO_L7N_T1L_N1_QBC_AD13N_64 (io)
part B pins: B7 VCCO_66, H1 IO_L8N_T1L_N3_AD5N_65 (io), H2 IO_T1U_N12_65 (io), H3 IO_L10N_T1U_N7_QBC_AD4N_65 (io), H4 IO_L10P_T1U_N6_QBC_AD4P_65 (io), H5 VCCO_65, H6 IO_L20N_T3L_N3_AD1N_65 (io), H7 IO_L21N_T3L_N5_AD8N_65 (io), H8 IO_L24N_T3U_N11_PERSTN0_65 (io), H9 IO_L24P_T3U_N10_PERSTN1_I2C_SDA_65 (io), J1 IO_L8P_T1L_N2_AD5P_65 (io), J2 IO_L9N_T1L_N5_AD12N_65 (io), J3 VCCO_65, J4 IO_L19N_T3L_N1_DBC_AD9N_65 (io), J5 IO_L19P_T3L_N0_DBC_AD9P_65 (io), J6 IO_L20P_T3L_N2_AD1P_65 (io), J7 IO_L21P_T3L_N4_AD8P_65 (io), J9 IO_L23N_T3U_N9_65 (io), K1 IO_L7N_T1L_N1_QBC_AD13N_65 (io), K2 IO_L9P_T1L_N4_AD12P_65 (io), K3 IO_L11N_T1U_N9_GC_65 (io), K4 IO_L11P_T1U_N8_GC_65 (io), K5 IO_T3U_N12_65 (io), K7 IO_L22N_T3U_N7_DBC_AD0N_65 (io), K8 IO_L22P_T3U_N6_DBC_AD0P_65 (io), K9 IO_L23P_T3U_N8_I2C_SCLK_65 (io), L1 IO_L7P_T1L_N0_QBC_AD13P_65 (io), L2 IO_L12N_T1U_N11_GC_65 (io), L3 IO_L12P_T1U_N10_GC_65 (io), L4 VCCO_65, L5 IO_L14N_T2L_N3_GC_65 (io), L6 IO_L13N_T2L_N1_GC_QBC_65 (io), L7 IO_L13P_T2L_N0_GC_QBC_65 (io), L8 IO_L18N_T2U_N11_AD2N_65 (io), M6 IO_L14P_T2L_N2_GC_65 (io), M8 IO_L18P_T2U_N10_AD2P_65 (io), N6 IO_L15N_T2L_N5_AD11N_65 (io), N7 IO_L15P_T2L_N4_AD11P_65 (io), N8 IO_L17N_T2U_N9_AD10N_65 (io), N9 IO_L17P_T2U_N8_AD10P_65 (io), P6 IO_L16N_T2U_N7_QBC_AD3N_65 (io), P7 IO_L16P_T2U_N6_QBC_AD3P_65 (io), P9 IO_T2U_N12_65 (io), R6 IO_L6P_T0U_N10_AD6P_65 (io), R7 IO_L5P_T0U_N8_AD14P_65 (io), R8 IO_L4P_T0U_N6_DBC_AD7P_SMBALERT_65 (io), R9 VREF_65, T6 IO_L6N_T0U_N11_AD6N_65 (io), T7 IO_L5N_T0U_N9_AD14N_65 (io), T8 IO_L4N_T0U_N7_DBC_AD7N_65 (io), U8 IO_L3P_T0L_N4_AD15P_65 (io), U9 IO_L2P_T0L_N2_65 (io), V8 IO_L3N_T0L_N5_AD15N_65 (io), V9 IO_L2N_T0L_N3_65 (io), W8 IO_L1P_T0L_N0_DBC_65 (io), W9 IO_T0U_N12_VRP_65 (io), Y8 IO_L1N_T0L_N1_DBC_65 (io)
part C pins: A1 IO_L8N_T1L_N3_AD5N_66 (io), A2 IO_L8P_T1L_N2_AD5P_66 (io), A3 IO_L9N_T1L_N5_AD12N_66 (io), A4 IO_L10N_T1U_N7_QBC_AD4N_66 (io), A5 IO_L19N_T3L_N1_DBC_AD9N_66 (io), A6 IO_L21N_T3L_N5_AD8N_66 (io), A7 IO_L21P_T3L_N4_AD8P_66 (io), A8 IO_L23N_T3U_N9_66 (io), A9 IO_L23P_T3U_N8_66 (io), B1 IO_L7N_T1L_N1_QBC_AD13N_66 (io), B3 IO_L9P_T1L_N4_AD12P_66 (io), B4 IO_L10P_T1U_N6_QBC_AD4P_66 (io), B5 IO_L19P_T3L_N0_DBC_AD9P_66 (io), B6 IO_L20N_T3L_N3_AD1N_66 (io), B8 IO_L22N_T3U_N7_DBC_AD0N_66 (io), B9 IO_L24N_T3U_N11_66 (io), C1 IO_L7P_T1L_N0_QBC_AD13P_66 (io), C2 IO_L12N_T1U_N11_GC_66 (io), C3 IO_L12P_T1U_N10_GC_66 (io), C4 IO_L11N_T1U_N9_GC_66 (io), C6 IO_L20P_T3L_N2_AD1P_66 (io), C7 IO_T3U_N12_66 (io), C8 IO_L22P_T3U_N6_DBC_AD0P_66 (io), C9 IO_L24P_T3U_N10_66 (io), D1 IO_L2N_T0L_N3_66 (io), D2 IO_T1U_N12_66 (io), D3 VCCO_66, D4 IO_L11P_T1U_N8_GC_66 (io), D5 IO_L14N_T2L_N3_GC_66 (io), D6 IO_L13N_T2L_N1_GC_QBC_66 (io), D7 IO_L13P_T2L_N0_GC_QBC_66 (io), D9 IO_L18N_T2U_N11_AD2N_66 (io), E1 IO_L2P_T0L_N2_66 (io), E2 IO_L3N_T0L_N5_AD15N_66 (io), E3 IO_L5N_T0U_N9_AD14N_66 (io), E4 IO_L5P_T0U_N8_AD14P_66 (io), E5 IO_L14P_T2L_N2_GC_66 (io), E6 VCCO_66, E7 IO_T2U_N12_66 (io), E8 IO_L17N_T2U_N9_AD10N_66 (io), E9 IO_L18P_T2U_N10_AD2P_66 (io), F1 IO_L1N_T0L_N1_DBC_66 (io), F2 IO_L3P_T0L_N4_AD15P_66 (io), F3 IO_L4N_T0U_N7_DBC_AD7N_66 (io), F5 IO_L6N_T0U_N11_AD6N_66 (io), F6 IO_L15N_T2L_N5_AD11N_66 (io), F7 IO_L16N_T2U_N7_QBC_AD3N_66 (io), F8 IO_L17P_T2U_N8_AD10P_66 (io), G1 IO_L1P_T0L_N0_DBC_66 (io), G3 IO_L4P_T0U_N6_DBC_AD7P_66 (io), G4 IO_T0U_N12_VRP_66 (io), G5 IO_L6P_T0U_N10_AD6P_66 (io), G6 IO_L15P_T2L_N4_AD11P_66 (io), G8 IO_L16P_T2U_N6_QBC_AD3P_66 (io), G9 VREF_66
part D pins: AA12 IO_L12N_AD8N_24 (io), AA13 IO_L7P_HDGC_24 (io), AA14 VCCO_24, AB13 IO_L7N_HDGC_24 (io), AB14 IO_L8N_HDGC_24 (io), AB15 IO_L8P_HDGC_24 (io), AC13 IO_L6N_HDGC_24 (io), AC14 IO_L6P_HDGC_24 (io), AD13 VCCO_24, AD14 IO_L5N_HDGC_24 (io), AD15 IO_L5P_HDGC_24 (io), AE13 IO_L4P_AD12P_24 (io), AE14 IO_L1N_AD15N_24 (io), AE15 IO_L1P_AD15P_24 (io), AF13 IO_L4N_AD12N_24 (io), AG13 IO_L3P_AD13P_24 (io), AG14 IO_L2P_AD14P_24 (io), AH13 IO_L3N_AD13N_24 (io), AH14 IO_L2N_AD14N_24 (io), W11 IO_L11N_AD9N_24 (io), W12 IO_L11P_AD9P_24 (io), W13 IO_L9N_AD11N_24 (io), W14 IO_L9P_AD11P_24 (io), Y12 IO_L12P_AD8P_24 (io), Y13 IO_L10N_AD10N_24 (io), Y14 IO_L10P_AD10P_24 (io)
part E pins: A10 IO_L10N_AD10N_25 (io), A11 IO_L11N_AD9N_25 (io), A12 IO_L11P_AD9P_25 (io), B10 IO_L9N_AD11N_25 (io), B11 IO_L10P_AD10P_25 (io), B12 VCCO_25, C11 IO_L9P_AD11P_25 (io), C12 IO_L12N_AD8N_25 (io), D10 IO_L7N_HDGC_25 (io), D11 IO_L8N_HDGC_25 (io), D12 IO_L12P_AD8P_25 (io), E10 IO_L7P_HDGC_25 (io), E11 VCCO_25, E12 IO_L8P_HDGC_25 (io), F10 IO_L5N_HDGC_25 (io), F11 IO_L6N_HDGC_25 (io), F12 IO_L6P_HDGC_25 (io), G10 IO_L3N_AD13N_25 (io), G11 IO_L5P_HDGC_25 (io), H11 IO_L3P_AD13P_25 (io), H12 IO_L4N_AD12N_25 (io), J10 IO_L1N_AD15N_25 (io), J11 IO_L1P_AD15P_25 (io), J12 IO_L4P_AD12P_25 (io), K12 IO_L2N_AD14N_25 (io), K13 IO_L2P_AD14P_25 (io)
part F pins: A13 IO_L3N_AD9N_26 (io), A14 IO_L2N_AD10N_26 (io), A15 IO_L1N_AD11N_26 (io), B13 IO_L3P_AD9P_26 (io), B14 IO_L2P_AD10P_26 (io), B15 IO_L1P_AD11P_26 (io), C13 IO_L4N_AD8N_26 (io), C14 IO_L4P_AD8P_26 (io), C15 VCCO_26, D14 IO_L5N_HDGC_AD7N_26 (io), D15 IO_L5P_HDGC_AD7P_26 (io), E13 IO_L6N_HDGC_AD6N_26 (io), E14 IO_L6P_HDGC_AD6P_26 (io), E15 IO_L8N_HDGC_AD4N_26 (io), F13 IO_L7N_HDGC_AD5N_26 (io), F14 VCCO_26, F15 IO_L8P_HDGC_AD4P_26 (io), G13 IO_L7P_HDGC_AD5P_26 (io), G14 IO_L9N_AD3N_26 (io), G15 IO_L9P_AD3P_26 (io), H13 IO_L10N_AD2N_26 (io), H14 IO_L10P_AD2P_26 (io), J14 IO_L11N_AD1N_26 (io), K14 IO_L11P_AD1P_26 (io), L13 IO_L12N_AD0N_26 (io), L14 IO_L12P_AD0P_26 (io)
part G pins: AA8 IO_L11N_AD1N_44 (io), AA10 IO_L9N_AD3N_44 (io), AA11 IO_L9P_AD3P_44 (io), AB9 IO_L12N_AD0N_44 (io), AB10 IO_L12P_AD0P_44 (io), AB11 IO_L8P_HDGC_AD4P_44 (io), AC10 VCCO_44, AC11 IO_L8N_HDGC_AD4N_44 (io), AC12 IO_L6P_HDGC_AD6P_44 (io), AD10 IO_L7N_HDGC_AD5N_44 (io), AD11 IO_L7P_HDGC_AD5P_44 (io), AD12 IO_L6N_HDGC_AD6N_44 (io), AE10 IO_L4P_AD8P_44 (io), AE12 IO_L5P_HDGC_AD7P_44 (io), AF10 IO_L4N_AD8N_44 (io), AF11 IO_L2P_AD10P_44 (io), AF12 IO_L5N_HDGC_AD7N_44 (io), AG10 IO_L1P_AD11P_44 (io), AG11 IO_L2N_AD10N_44 (io), AG12 VCCO_44, AH10 IO_L1N_AD11N_44 (io), AH11 IO_L3N_AD9N_44 (io), AH12 IO_L3P_AD9P_44 (io), W10 IO_L10P_AD2P_44 (io), Y9 IO_L11P_AD1P_44 (io), Y10 IO_L10N_AD2N_44 (io)
part H pins: A21 PS_MGTREFCLK3P_505 (in), A22 PS_MGTREFCLK3N_505 (in), A23 PS_MGTRAVTT, A25 PS_MGTRRXP3_505 (in), A26 PS_MGTRRXN3_505 (in), B22 PS_MGTRAVCC, B23 PS_MGTRTXP3_505 (out), B24 PS_MGTRTXN3_505 (out), B27 PS_MGTRRXP2_505 (in), B28 PS_MGTRRXN2_505 (in), C21 PS_MGTREFCLK2P_505 (in), C22 PS_MGTREFCLK2N_505 (in), C23 PS_MGTRAVTT, C25 PS_MGTRTXP2_505 (out), C26 PS_MGTRTXN2_505 (out), D22 PS_MGTRAVCC, D23 PS_MGTRTXP1_505 (out), D24 PS_MGTRTXN1_505 (out), D25 PS_MGTRAVTT, D27 PS_MGTRRXP1_505 (in), D28 PS_MGTRRXN1_505 (in), E21 PS_MGTREFCLK1P_505 (in), E22 PS_MGTREFCLK1N_505 (in), E23 PS_MGTRAVTT, E25 PS_MGTRTXP0_505 (out), E26 PS_MGTRTXN0_505 (out), F22 PS_MGTRREF_505, F23 PS_MGTREFCLK0P_505 (in), F24 PS_MGTREFCLK0N_505 (in), F27 PS_MGTRRXP0_505 (in), F28 PS_MGTRRXN0_505 (in)
part I pins: AB17 VCCO_PSIO0_500, AB18 PS_MIO23, AB19 PS_MIO24, AB20 PS_MIO22, AB21 PS_MIO25, AC16 PS_MIO9, AC17 PS_MIO12, AC18 PS_MIO17, AC19 PS_MIO18, AC21 PS_MIO21, AD16 PS_MIO5, AD17 PS_MIO10, AD19 PS_MIO20, AE16 VCCO_PSIO0_500, AE17 PS_MIO11, AE18 PS_MIO15, AE19 PS_MIO19, AF15 PS_MIO2, AF16 PS_MIO6, AF17 PS_MIO8, AF18 PS_MIO16, AG15 PS_MIO0, AG16 PS_MIO1, AG17 VCCO_PSIO0_500, AG18 PS_MIO14, AH15 PS_MIO3, AH16 PS_MIO4, AH17 PS_MIO7, AH18 PS_MIO13
part J pins: F16 PS_MIO30, G16 PS_MIO29, H16 PS_MIO31, H17 PS_MIO35, H18 PS_MIO38, H19 PS_MIO39, H20 VCCO_PSIO1_501, H21 PS_MIO47, J15 PS_MIO27, J16 PS_MIO32, J17 PS_MIO37, J19 PS_MIO41, J20 PS_MIO44, J21 PS_MIO48, K15 PS_MIO28, K17 PS_MIO36, K18 PS_MIO40, K19 PS_MIO43, K20 PS_MIO45, L15 PS_MIO26, L16 PS_MIO33, L17 PS_MIO34, L18 PS_MIO42, L19 VCCO_PSIO1_501, L20 PS_MIO46, L21 PS_MIO51, M18 PS_MIO49, M19 PS_MIO50
part K pins: A16 PS_MIO57, A17 PS_MIO62, A18 PS_MIO65, A19 PS_MIO75, B16 PS_MIO55, B18 PS_MIO67, B19 PS_MIO71, B20 PS_MIO76, C16 PS_MIO56, C17 PS_MIO60, C18 PS_MIO68, C19 PS_MIO70, D16 PS_MIO53, D17 PS_MIO61, D18 VCCO_PSIO2_502, D19 PS_MIO69, D20 PS_MIO74, E17 PS_MIO59, E18 PS_MIO63, E19 PS_MIO64, F17 PS_MIO54, F18 PS_MIO58, F20 PS_MIO77, G17 VCCO_PSIO2_502, G18 PS_MIO52, G19 PS_MIO66, G20 PS_MIO72, G21 PS_MIO73
part L pins: AA22 PS_DDR_A8 (out), AA23 PS_DDR_A7 (out), AA25 PS_DDR_A10 (out), AA26 PS_DDR_A11 (out), AA27 PS_DDR_A5 (out), AA28 PS_DDR_A3 (out), AB22 VCCO_PSDDR_504, AB23 PS_DDR_A9 (out), AB24 PS_DDR_A14 (out), AB25 PS_DDR_A12 (out), AB26 PS_DDR_A13 (out), AB28 PS_DDR_A2 (out), AC22 PS_DDR_A17 (out), AC23 PS_DDR_A16 (out), AC24 PS_DDR_A15 (out), AC26 PS_DDR_DQ16 (io), AC27 PS_DDR_DQ28 (io), AC28 PS_DDR_DQ31 (io), AD20 PS_DDR_DQ2 (io), AD21 PS_DDR_DQ0 (io), AD22 PS_DDR_DQ11 (io), AD23 VCCO_PSDDR_504, AD24 PS_DDR_DQ19 (io), AD25 PS_DDR_DQ18 (io), AD26 PS_DDR_DQ17 (io), AD27 PS_DDR_DQ29 (io), AD28 PS_DDR_DQ30 (io), AE20 PS_DDR_DQ1 (io), AE22 PS_DDR_DQ10 (io), AE23 PS_DDR_DM1 (io), AE24 PS_DDR_DQ14 (io), AE25 PS_DDR_DM2 (io), AE27 PS_DDR_DQS_P3 (io), AE28 PS_DDR_DM3 (io), AF20 PS_DDR_DQ3 (io), AF21 PS_DDR_DQS_P0 (io), AF22 PS_DDR_DQ8 (io), AF23 PS_DDR_DQS_P1 (io), AF24 VCCO_PSDDR_504, AF25 PS_DDR_DQS_P2 (io), AF26 PS_DDR_DQS_N2 (io), AF27 PS_DDR_DQS_N3 (io), AF28 PS_DDR_DQ26 (io), AG19 PS_DDR_DQ7 (io), AG20 PS_DDR_DM0 (io), AG21 PS_DDR_DQS_N0 (io), AG23 PS_DDR_DQS_N1 (io), AG24 PS_DDR_DQ15 (io), AG25 PS_DDR_DQ23 (io), AG26 PS_DDR_DQ20 (io), AG28 PS_DDR_DQ27 (io), AH19 PS_DDR_DQ6 (io), AH20 PS_DDR_DQ5 (io), AH21 PS_DDR_DQ4 (io), AH22 PS_DDR_DQ9 (io), AH23 PS_DDR_DQ12 (io), AH24 PS_DDR_DQ13 (io), AH25 PS_DDR_DQ21 (io), AH26 PS_DDR_DQ22 (io), AH27 PS_DDR_DQ24 (io), AH28 PS_DDR_DQ25 (io), P23 VCCO_PSDDR_504, T24 VCCO_PSDDR_504, U23 PS_DDR_RAM_RST_N, U24 PS_DDR_ZQ, U25 PS_DDR_ALERT_N, U26 PS_DDR_ODT1, U28 PS_DDR_ODT0, V22 PS_DDR_BG1, V23 PS_DDR_BA0 (out), V24 PS_DDR_PARITY, V25 VCCO_PSDDR_504, V26 PS_DDR_CS_N1 (out), V27 PS_DDR_CKE1, V28 PS_DDR_CKE0, W22 PS_DDR_BA1 (out), W24 PS_DDR_BG0, W25 PS_DDR_CK0, W26 PS_DDR_CK_N0, W27 PS_DDR_CS_N0 (out), W28 PS_DDR_A0 (out), Y22 PS_DDR_A6 (out), Y23 PS_DDR_ACT_N, Y24 PS_DDR_CK1, Y25 PS_DDR_CK_N1, Y26 VCCO_PSDDR_504, Y27 PS_DDR_A4 (out), Y28 PS_DDR_A1 (out)
part M pins: G25 PS_DDR_DQ61 (io), G26 PS_DDR_DQ60 (io), H22 PS_DDR_DQ45 (io), H23 PS_DDR_DM5 (io), H24 PS_DDR_DQ40 (io), H26 PS_DDR_DM7 (io), H27 PS_DDR_DQ59 (io), H28 PS_DDR_DQ58 (io), J22 PS_DDR_DQ44 (io), J24 PS_DDR_DQ41 (io), J25 PS_DDR_DQ63 (io), J26 PS_DDR_DQS_P7 (io), J27 PS_DDR_DQS_N7 (io), J28 PS_DDR_DQ56 (io), K22 PS_DDR_DQ46 (io), K23 PS_DDR_DQS_N5 (io), K24 PS_DDR_DQ43 (io), K25 PS_DDR_DQ62 (io), K27 PS_DDR_DQ57 (io), K28 PS_DDR_DQ52 (io), L22 PS_DDR_DQ47 (io), L23 PS_DDR_DQS_P5 (io), L25 PS_DDR_DQ50 (io), L26 PS_DDR_DQ51 (io), L27 PS_DDR_DM6 (io), L28 PS_DDR_DQ53 (io), M23 PS_DDR_DQS_N4 (io), M24 PS_DDR_DQ42 (io), M25 PS_DDR_DQ48 (io), M26 PS_DDR_DQ49 (io), M28 PS_DDR_DQ54 (io), N22 PS_DDR_DQ35 (io), N23 PS_DDR_DQS_P4 (io), N24 PS_DDR_DQ39 (io), N26 PS_DDR_DQS_P6 (io), N27 PS_DDR_DQS_N6 (io), N28 PS_DDR_DQ55 (io), P22 PS_DDR_DQ34 (io), P24 PS_DDR_DQ37 (io), P25 PS_DDR_DQ70 (io), P26 PS_DDR_DQ68 (io), P27 PS_DDR_DQ67 (io), P28 PS_DDR_DQ66 (io), R22 PS_DDR_DQ33 (io), R23 PS_DDR_DM4 (io), R24 PS_DDR_DQ38 (io), R25 PS_DDR_DQ69 (io), R27 PS_DDR_DQS_P8 (io), R28 PS_DDR_DQ65 (io), T22 PS_DDR_DQ32 (io), T23 PS_DDR_DQ36 (io), T25 PS_DDR_DQ71 (io), T26 PS_DDR_DM8 (io), T27 PS_DDR_DQS_N8 (io), T28 PS_DDR_DQ64 (io)
part N pins: M17 VCCO_PSIO3_503, M20 PS_ERROR_STATUS (out), M21 PS_DONE (out), N1 NC, N2 NC, N3 NC, N4 NC, N17 PS_PADI (in), N18 PS_PADO (out), N19 PS_SRST_B (in), N21 PS_JTAG_TMS (in), P1 NC, P2 NC, P4 NC, P16 PS_POR_B (in), P17 PS_ERROR_OUT (out), P18 VCCO_PSIO3_503, P19 PS_MODE0 (io), P20 PS_MODE1 (io), P21 PS_INIT_B, R3 NC, R4 NC, R16 PS_REF_CLK (in), R17 PS_PROG_B (in), R18 PS_JTAG_TDI (in), R19 PS_JTAG_TCK (in), R20 PS_MODE2 (io), T1 NC, T2 NC, T4 NC, T20 PS_MODE3 (io), T21 PS_JTAG_TDO (out), U3 NC, U4 NC, U5 NC, U7 PUDC_B (in), V1 NC, V2 NC, V4 NC, V5 NC, V6 NC, W3 NC, W4 NC, W5 NC, W7 POR_OVERRIDE (in), Y1 NC, Y2 NC, Y4 NC, Y5 NC, Y6 NC
part O pins: AA15 VCC_PSINTFP, AA16 VCC_PSINTFP, AA17 VCC_PSINTFP, AA18 VCC_PSINTFP, AA20 VCC_PSINTFP_DDR, AA21 VCC_PSINTFP_DDR, AB16 VCC_PSINTFP, K10 VCCINT_IO, L10 VCCINT_IO, L11 VCCBRAM, L12 VCCBRAM, M9 VCCINT_IO, M10 VCCINT_IO, M11 VCCBRAM, M12 VCCBRAM, M13 VCCAUX_IO, M14 VCCAUX_IO, M15 VCCAUX_IO, M16 VCCAUX, N11 VCCINT, N13 VCCINT, N15 VCCINT, N16 VCCAUX, P10 VCCINT, P12 VCCADC, P13 GNDADC, P14 VCCINT, P15 VCCINT, R10 VCCINT, R11 VCCINT, R12 VREFN, R13 VP, R14 VCCINT, T11 VCCINT, T12 VN, T13 VREFP, T15 VCCINT, T16 VCC_PSPLL, T17 VCC_PSPLL, T18 VCC_PSPLL, U10 VCCINT, U12 DXN, U13 DXP, U14 VCCINT, U15 VCCINT, U16 VCC_PSDDR_PLL, U18 VCC_PSDDR_PLL, U19 VCC_PSAUX, U20 VCC_PSAUX, V10 VCCINT, V11 VCCINT, V12 VCCINT, V14 VCCINT, V16 VCC_PSINTLP, V17 VCC_PSINTLP, V18 VCC_PSINTLP, V19 VCC_PSAUX, W15 VCC_PSINTLP, W16 VCC_PSINTLP, W17 VCC_PSINTLP, W19 VCC_PSAUX, W20 GND_PSADC, Y15 VCC_PSINTFP, Y17 VCC_PSINTFP, Y18 VCC_PSBATT, Y19 VCC_PSINTFP_DDR, Y20 VCC_PSADC
part P pins: A20 GND, A24 GND, A27 GND, A28 GND, AA1 GND, AA2 GND, AA3 GND, AA4 GND, AA5 GND, AA6 GND, AA9 GND, AA19 GND, AA24 GND, AB12 GND, AB27 GND, AC15 GND, AC20 GND, AC25 GND, AD3 GND, AD18 GND, AE1 GND, AE6 GND, AE11 GND, AE21 GND, AE26 GND, AF4 GND, AF9 GND, AF14 GND, AF19 GND, AG2 GND, AG22 GND, AG27 GND, AH5 GND, B2 GND, B17 GND, B21 GND, B25 GND, B26 GND, C5 GND, C10 GND, C20 GND, C24 GND, C27 GND, C28 GND, D8 GND, D13 GND, D21 GND, D26 GND, E16 GND, E20 GND, E24 GND, E27 GND, E28 GND, F4 GND, F9 GND, F19 GND, F21 GND, F25 GND, F26 GND, G2 GND, G7 GND, G12 GND, G22 GND, G23 GND, G24 GND, G27 GND, G28 GND, H10 GND, H15 GND, H25 GND, J8 GND, J13 GND, J18 GND, J23 GND, K6 GND, K11 GND, K16 GND, K21 GND, K26 GND, L9 GND, L24 GND, M1 GND, M2 GND, M3 GND, M4 GND, M5 GND, M7 GND, M22 GND, M27 GND, N5 GND, N10 GND, N12 GND, N14 GND, N20 GND, N25 GND, P3 GND, P5 GND, P8 GND, P11 GND, R1 GND, R2 GND, R5 GND, R15 GND, R21 GND, R26 GND, T3 GND, T5 GND, T9 GND, T10 GND, T14 GND, T19 GND, U1 GND, U2 GND, U6 GND, U11 GND, U17 GND, U21 RSVDGND, U22 GND, U27 GND, V3 GND, V7 GND, V13 GND, V15 GND, V20 RSVDGND, V21 RSVDGND, W1 GND, W2 GND, W6 GND, W18 GND, W21 RSVDGND, W23 GND, Y3 GND, Y7 GND, Y11 GND, Y16 GND, Y21 RSVDGND
part A text: 1.0V-1.8V
part B text: 1.0V-1.8V
part C text: 1.0V-1.8V
part D text: 1.2V-3.3V
part E text: 1.2V-3.3V
part F text: 1.2V-3.3V
part G text: 1.2V-3.3V
part H text: 0.85V; 1.8V
part I text: 1.8V-3.3V
part J text: 1.8V-3.3V
part K text: 1.8V-3.3V
part L text: 1.1V-1.5V
part M text: ECC Byte
part N text: 1.8V-3.3V
part O text: 1.8V; 0.85V-0.9V; 1.2V; 1.2V-1.5V; 1.25V